# Altium schematic symbol library ICs_Control.SchLib: 37 symbols (part 3 of 6)
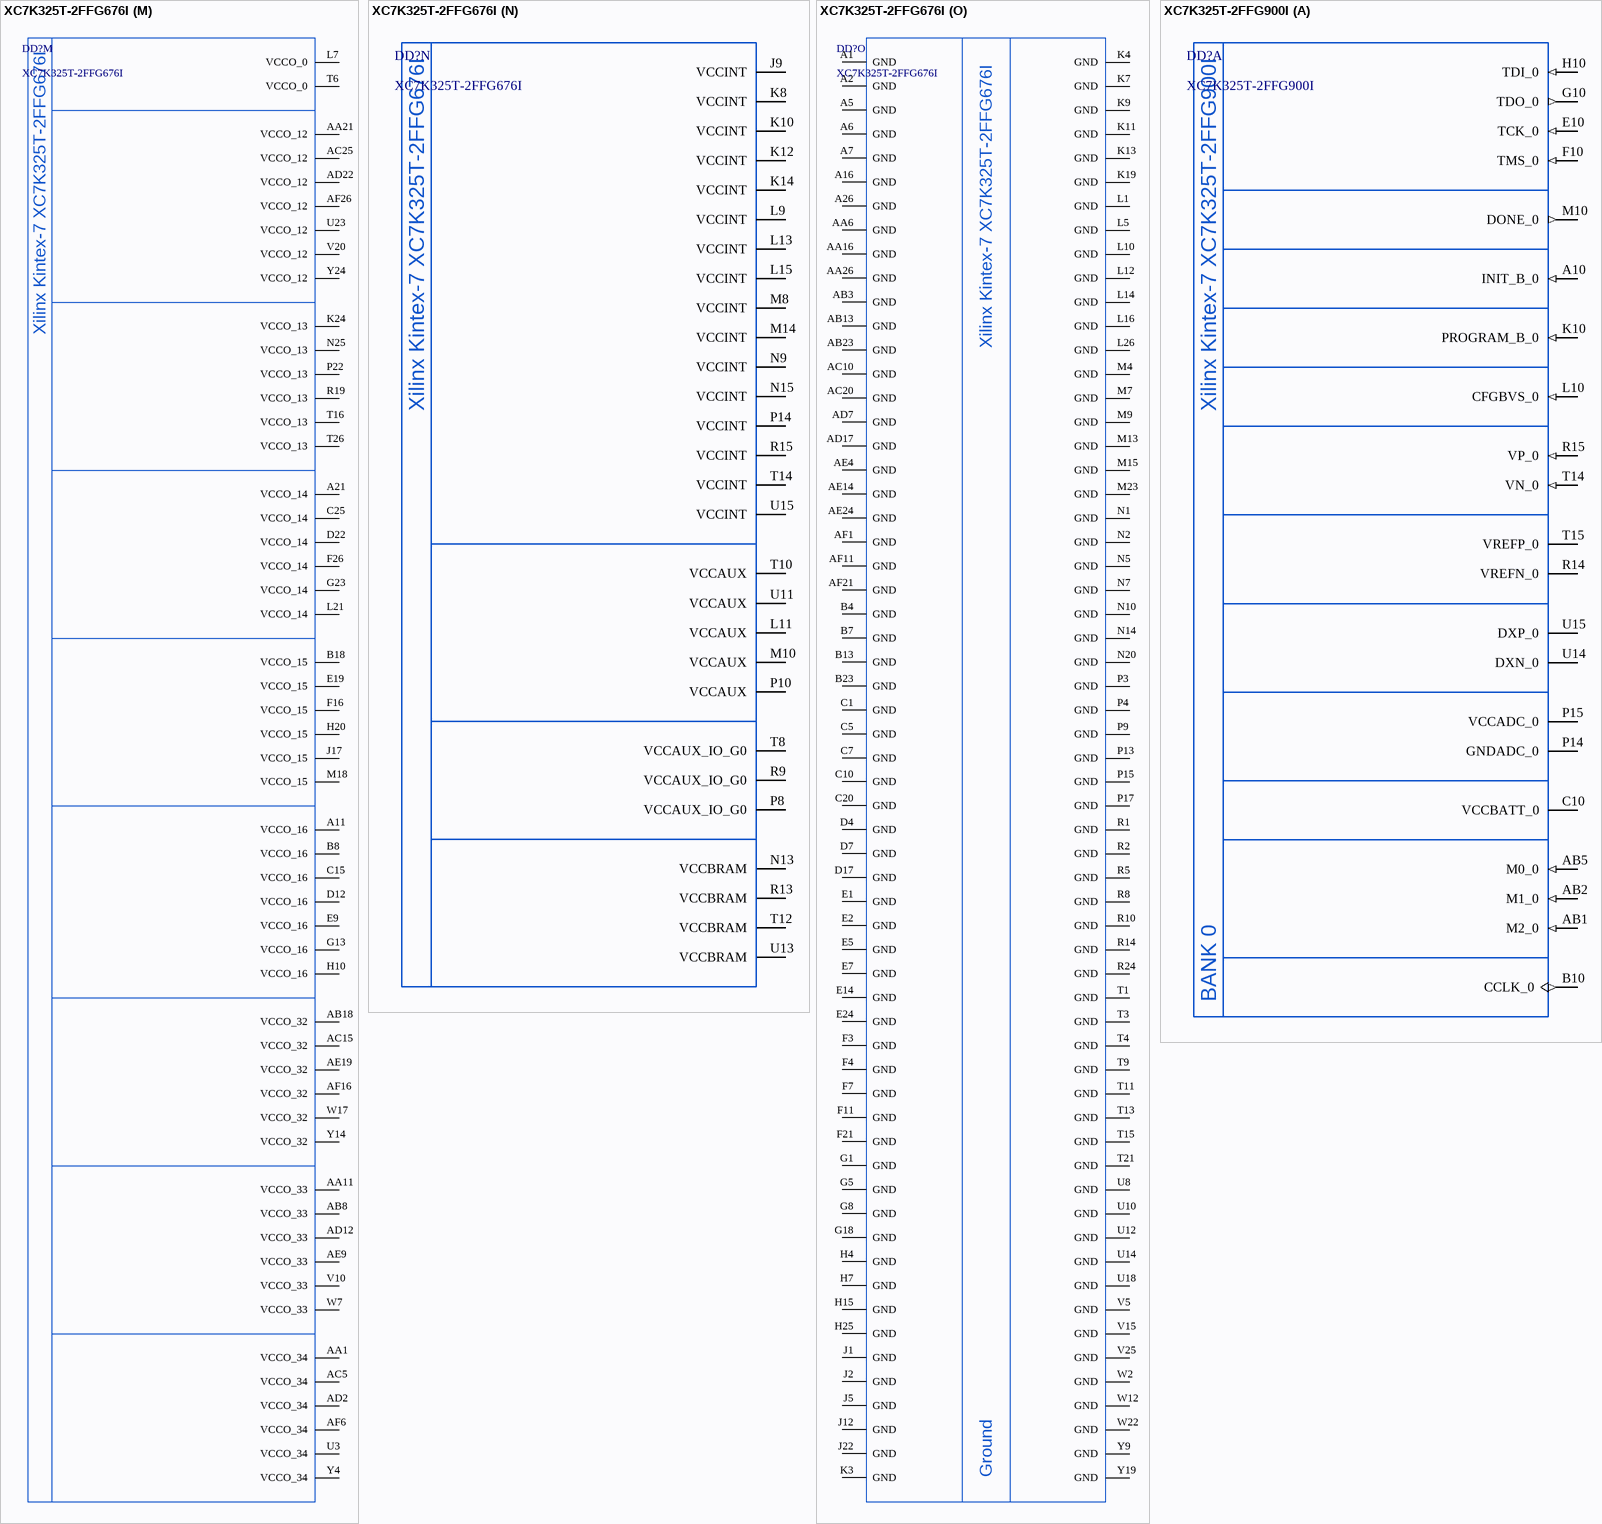
[diagram p79: symbols XC7K325T-2FFG676I to XC7K325T-2FFG900I]

## XC7K325T-2FFG676I
designator DD?
Kintex-7 FPGA, 400 User I/Os, 8 GTX, 676-Ball BGA, Speed Grade 2; Manufacturer: Xilinx; ItemType: IC; Speed Grade: -2; PartNumber: XC7K325T-2FFG676I; Package: FFG676; Marking: XC7K325T; ItemSubType: FPGA; Mounting: SMD
footprint FFG676_XC7K325T (BGA, 676-Leads, Body 27,00x27,00mmx2,67mm, Pitch 1,00mm)
part A pins: C8 CCLK_0 (out), E8 VCCBATT_0 (power), G7 INIT_B_0 (in), J7 DONE_0 (out), L8 TCK_0 (in), M11 GNDADC_0, M12 VCCADC_0 (power), N8 TMS_0 (in), N11 VREFN_0, N12 VP_0 (in), P5 M2_0 (in), P6 PROGRAM_B_0 (in), P7 CFGBVS_0 (in), P11 VN_0 (in), P12 VREFP_0, R6 TDI_0 (in), R7 TDO_0 (out), R11 DXN_0, R12 DXP_0, T2 M1_0 (in), T5 M0_0 (in)
part B pins: AA22 IO_L13N_T2_MRCC_12 (io), AA23 IO_L11P_T1_SRCC_12 (io), AA24 IO_L12N_T1_MRCC_12 (io), AA25 IO_L7P_T1_12 (io), AB21 IO_L18P_T2_12 (io), AB22 IO_L17P_T2_12 (io), AB24 IO_L11N_T1_SRCC_12 (io), AB25 IO_L7N_T1_12 (io), AB26 IO_L9P_T1_DQS_12 (io), AC21 IO_L18N_T2_12 (io), AC22 IO_L17N_T2_12 (io), AC23 IO_L14P_T2_SRCC_12 (io), AC24 IO_L14N_T2_SRCC_12 (io), AC26 IO_L9N_T1_DQS_12 (io), AD21 IO_L19P_T3_12 (io), AD23 IO_L16P_T2_12 (io), AD24 IO_L16N_T2_12 (io), AD25 IO_L23P_T3_12 (io), AD26 IO_L21P_T3_DQS_12 (io), AE21 IO_L19N_T3_VREF_12 (io), AE22 IO_L24P_T3_12 (io), AE23 IO_L22P_T3_12 (io), AE25 IO_L23N_T3_12 (io), AE26 IO_L21N_T3_DQS_12 (io), AF22 IO_L24N_T3_12 (io), AF23 IO_L22N_T3_12 (io), AF24 IO_L20P_T3_12 (io), AF25 IO_L20N_T3_12 (io), U21 IO_0_12 (io), U22 IO_L1P_T0_12 (io), U24 IO_L2P_T0_12 (io), U25 IO_L2N_T0_12 (io), U26 IO_L4P_T0_12 (io), V21 IO_L6P_T0_12 (io), V22 IO_L1N_T0_12 (io), V23 IO_L3P_T0_DQS_12 (io), V24 IO_L3N_T0_DQS_12 (io), V26 IO_L4N_T0_12 (io), W20 IO_L15P_T2_DQS_12 (io), W21 IO_L6N_T0_VREF_12 (io), W23 IO_L8P_T1_12 (io), W24 IO_L8N_T1_12 (io), W25 IO_L5P_T0_12 (io), W26 IO_L5N_T0_12 (io), Y20 IO_25_12 (io), Y21 IO_L15N_T2_DQS_12 (io), Y22 IO_L13P_T2_MRCC_12 (io), Y23 IO_L12P_T1_MRCC_12 (io), Y25 IO_L10P_T1_12 (io), Y26 IO_L10N_T1_12 (io)
part C pins: K25 IO_L1P_T0_13 (io), K26 IO_L1N_T0_13 (io), L24 IO_L8N_T1_13 (io), L25 IO_L3N_T0_DQS_13 (io), M19 IO_L22N_T3_13 (io), M20 IO_L7N_T1_13 (io), M21 IO_L10P_T1_13 (io), M22 IO_L10N_T1_13 (io), M24 IO_L8P_T1_13 (io), M25 IO_L3P_T0_DQS_13 (io), M26 IO_L5N_T0_13 (io), N16 IO_0_13 (io), N17 IO_L20N_T3_13 (io), N18 IO_L22P_T3_13 (io), N19 IO_L7P_T1_13 (io), N21 IO_L12P_T1_MRCC_13 (io), N22 IO_L12N_T1_MRCC_13 (io), N23 IO_L11N_T1_SRCC_13 (io), N24 IO_L4N_T0_13 (io), N26 IO_L5P_T0_13 (io), P16 IO_L20P_T3_13 (io), P18 IO_L24N_T3_13 (io), P19 IO_L9P_T1_DQS_13 (io), P20 IO_L9N_T1_DQS_13 (io), P21 IO_L13N_T2_MRCC_13 (io), P23 IO_L11P_T1_SRCC_13 (io), P24 IO_L4P_T0_13 (io), P25 IO_L6N_T0_VREF_13 (io), P26 IO_L2N_T0_13 (io), R16 IO_L21P_T3_DQS_13 (io), R17 IO_L21N_T3_DQS_13 (io), R18 IO_L24P_T3_13 (io), R20 IO_L16N_T2_13 (io), R21 IO_L13P_T2_MRCC_13 (io), R22 IO_L14P_T2_SRCC_13 (io), R23 IO_L14N_T2_SRCC_13 (io), R25 IO_L6P_T0_13 (io), R26 IO_L2P_T0_13 (io), T17 IO_L23N_T3_13 (io), T18 IO_L19P_T3_13 (io), T19 IO_L19N_T3_VREF_13 (io), T20 IO_L16P_T2_13 (io), T22 IO_L17P_T2_13 (io), T23 IO_L17N_T2_13 (io), T24 IO_L15P_T2_DQS_13 (io), T25 IO_L15N_T2_DQS_13 (io), U16 IO_25_13 (io), U17 IO_L23P_T3_13 (io), U19 IO_L18P_T2_13 (io), U20 IO_L18N_T2_13 (io)
part D pins: A20 IO_L8N_T1_D12_14 (io), A22 IO_L2N_T0_D03_14 (io), A23 IO_L4P_T0_D04_14 (io), A24 IO_L4N_T0_D05_14 (io), A25 IO_L1N_T0_D01_DIN_14 (io), B20 IO_L8P_T1_D11_14 (io), B21 IO_L10N_T1_D15_14 (io), B22 IO_L2P_T0_D02_14 (io), B24 IO_L1P_T0_D00_MOSI_14 (io), B25 IO_L3P_T0_DQS_PUDC_B_14 (io), B26 IO_L3N_T0_DQS_EMCCLK_14 (io), C21 IO_L10P_T1_D14_14 (io), C22 IO_L7N_T1_D10_14 (io), C23 IO_L6P_T0_FCS_B_14 (io), C24 IO_L6N_T0_D08_VREF_14 (io), C26 IO_L5N_T0_D07_14 (io), D21 IO_L7P_T1_D09_14 (io), D23 IO_L11P_T1_SRCC_14 (io), D24 IO_L11N_T1_SRCC_14 (io), D25 IO_L15N_T2_DQS_DOUT_CSO_B_14 (io), D26 IO_L5P_T0_D06_14 (io), E21 IO_L9P_T1_DQS_14 (io), E22 IO_L9N_T1_DQS_D13_14 (io), E23 IO_L12N_T1_MRCC_14 (io), E25 IO_L15P_T2_DQS_RDWR_B_14 (io), E26 IO_L17N_T2_A13_D29_14 (io), F22 IO_L12P_T1_MRCC_14 (io), F23 IO_L13N_T2_MRCC_14 (io), F24 IO_L14N_T2_SRCC_14 (io), F25 IO_L17P_T2_A14_D30_14 (io), G21 IO_L19N_T3_A09_D25_VREF_14 (io), G22 IO_L13P_T2_MRCC_14 (io), G24 IO_L14P_T2_SRCC_14 (io), G25 IO_L16P_T2_CSI_B_14 (io), G26 IO_L16N_T2_A15_D31_14 (io), H21 IO_L19P_T3_A10_D26_14 (io), H22 IO_L21N_T3_DQS_A06_D22_14 (io), H23 IO_L20P_T3_A08_D24_14 (io), H24 IO_L20N_T3_A07_D23_14 (io), H26 IO_L18N_T2_A11_D27_14 (io), J21 IO_L21P_T3_DQS_14 (io), J23 IO_L24N_T3_A00_D16_14 (io), J24 IO_L22P_T3_A05_D21_14 (io), J25 IO_L22N_T3_A04_D20_14 (io), J26 IO_L18P_T2_A12_D28_14 (io), K21 IO_0_14 (io), K22 IO_L23N_T3_A02_D18_14 (io), K23 IO_L24P_T3_A01_D17_14 (io), L22 IO_L23P_T3_A03_D19_14 (io), L23 IO_25_14 (io)
part E pins: A17 IO_L3N_T0_DQS_AD1N_15 (io), A18 IO_L2P_T0_AD8P_15 (io), A19 IO_L2N_T0_AD8N_15 (io), B16 IO_L1N_T0_AD0N_15 (io), B17 IO_L3P_T0_DQS_AD1P_15 (io), B19 IO_L4N_T0_AD9N_15 (io), C16 IO_L1P_T0_AD0P_15 (io), C17 IO_L5P_T0_AD2P_15 (io), C18 IO_L5N_T0_AD2N_15 (io), C19 IO_L4P_T0_AD9P_15 (io), D15 IO_L6P_T0_15 (io), D16 IO_L6N_T0_VREF_15 (io), D18 IO_L13N_T2_MRCC_15 (io), D19 IO_L15P_T2_DQS_15 (io), D20 IO_L15N_T2_DQS_ADV_B_15 (io), E15 IO_L10P_T1_AD4P_15 (io), E16 IO_L10N_T1_AD4N_15 (io), E17 IO_L12N_T1_MRCC_AD5N_15 (io), E18 IO_L13P_T2_MRCC_15 (io), E20 IO_L17N_T2_A25_15 (io), F15 IO_L8N_T1_AD3N_15 (io), F17 IO_L12P_T1_MRCC_AD5P_15 (io), F18 IO_L11N_T1_SRCC_AD12N_15 (io), F19 IO_L17P_T2_A26_15 (io), F20 IO_L16N_T2_A27_15 (io), G15 IO_L8P_T1_AD3P_15 (io), G16 IO_L7N_T1_AD10N_15 (io), G17 IO_L11P_T1_SRCC_AD12P_15 (io), G19 IO_L16P_T2_A28_15 (io), G20 IO_L18N_T2_A23_15 (io), H16 IO_L7P_T1_AD10P_15 (io), H17 IO_L14P_T2_SRCC_15 (io), H18 IO_L14N_T2_SRCC_15 (io), H19 IO_L18P_T2_A24_15 (io), J15 IO_L9P_T1_DQS_AD11P_15 (io), J16 IO_L9N_T1_DQS_AD11N_15 (io), J18 IO_L20P_T3_A20_15 (io), J19 IO_L20N_T3_A19_15 (io), J20 IO_L19N_T3_A21_VREF_15 (io), K15 IO_0_15 (io), K16 IO_L22P_T3_A17_15 (io), K17 IO_L22N_T3_A16_15 (io), K18 IO_L24N_T3_RS0_15 (io), K20 IO_L19P_T3_A22_15 (io), L17 IO_L24P_T3_RS1_15 (io), L18 IO_L23N_T3_FWE_B_15 (io), L19 IO_L21P_T3_DQS_15 (io), L20 IO_L21N_T3_DQS_A18_15 (io), M16 IO_25_15 (io), M17 IO_L23P_T3_FOE_B_15 (io)
part F pins: A8 IO_L9N_T1_DQS_16 (io), A9 IO_L9P_T1_DQS_16 (io), A10 IO_L22N_T3_16 (io), A12 IO_L24N_T3_16 (io), A13 IO_L24P_T3_16 (io), A14 IO_L21N_T3_DQS_16 (io), A15 IO_L23N_T3_16 (io), B9 IO_L10N_T1_16 (io), B10 IO_L22P_T3_16 (io), B11 IO_L20N_T3_16 (io), B12 IO_L20P_T3_16 (io), B14 IO_L21P_T3_DQS_16 (io), B15 IO_L23P_T3_16 (io), C9 IO_L10P_T1_16 (io), C11 IO_L13N_T2_MRCC_16 (io), C12 IO_L13P_T2_MRCC_16 (io), C13 IO_L19N_T3_VREF_16 (io), C14 IO_L19P_T3_16 (io), D8 IO_L8N_T1_16 (io), D9 IO_L8P_T1_16 (io), D10 IO_L12N_T1_MRCC_16 (io), D11 IO_L14N_T2_SRCC_16 (io), D13 IO_L17N_T2_16 (io), D14 IO_L17P_T2_16 (io), E10 IO_L12P_T1_MRCC_16 (io), E11 IO_L14P_T2_SRCC_16 (io), E12 IO_L18N_T2_16 (io), E13 IO_L18P_T2_16 (io), F8 IO_L7N_T1_16 (io), F9 IO_L7P_T1_16 (io), F10 IO_L11N_T1_SRCC_16 (io), F12 IO_L16N_T2_16 (io), F13 IO_L15N_T2_DQS_16 (io), F14 IO_L15P_T2_DQS_16 (io), G9 IO_L2N_T0_16 (io), G10 IO_L2P_T0_16 (io), G11 IO_L11P_T1_SRCC_16 (io), G12 IO_L16P_T2_16 (io), G14 IO_L5N_T0_16 (io), H8 IO_L1N_T0_16 (io), H9 IO_L1P_T0_16 (io), H11 IO_L6N_T0_VREF_16 (io), H12 IO_L6P_T0_16 (io), H13 IO_L3N_T0_DQS_16 (io), H14 IO_L5P_T0_16 (io), J8 IO_0_16 (io), J10 IO_L4N_T0_16 (io), J11 IO_L4P_T0_16 (io), J13 IO_L3P_T0_DQS_16 (io), J14 IO_25_16 (io)
part G pins: AA14 IO_L7P_T1_32 (io), AA15 IO_L7N_T1_32 (io), AA17 IO_L11P_T1_SRCC_32 (io), AA18 IO_L11N_T1_SRCC_32 (io), AA19 IO_L16P_T2_32 (io), AA20 IO_L16N_T2_32 (io), AB14 IO_L10P_T1_32 (io), AB15 IO_L10N_T1_32 (io), AB16 IO_L12P_T1_MRCC_32 (io), AB17 IO_L14P_T2_SRCC_32 (io), AB19 IO_L18P_T2_32 (io), AB20 IO_L18N_T2_32 (io), AC14 IO_L8P_T1_32 (io), AC16 IO_L12N_T1_MRCC_32 (io), AC17 IO_L14N_T2_SRCC_32 (io), AC18 IO_L13P_T2_MRCC_32 (io), AC19 IO_L17P_T2_32 (io), AD14 IO_L8N_T1_32 (io), AD15 IO_L4P_T0_32 (io), AD16 IO_L6P_T0_32 (io), AD18 IO_L13N_T2_MRCC_32 (io), AD19 IO_L17N_T2_32 (io), AD20 IO_L15P_T2_DQS_32 (io), AE15 IO_L4N_T0_32 (io), AE16 IO_L6N_T0_VREF_32 (io), AE17 IO_L1P_T0_32 (io), AE18 IO_L3P_T0_DQS_32 (io), AE20 IO_L15N_T2_DQS_32 (io), AF14 IO_L2P_T0_32 (io), AF15 IO_L2N_T0_32 (io), AF17 IO_L1N_T0_32 (io), AF18 IO_L3N_T0_DQS_32 (io), AF19 IO_L5P_T0_32 (io), AF20 IO_L5N_T0_32 (io), V13 IO_0_VRN_32 (io), V14 IO_L24P_T3_32 (io), V16 IO_L20P_T3_32 (io), V17 IO_L20N_T3_32 (io), V18 IO_L23P_T3_32 (io), V19 IO_L23N_T3_32 (io), W13 IO_25_VRP_32 (io), W14 IO_L24N_T3_32 (io), W15 IO_L22P_T3_32 (io), W16 IO_L22N_T3_32 (io), W18 IO_L21P_T3_DQS_32 (io), W19 IO_L21N_T3_DQS_32 (io), Y15 IO_L9P_T1_DQS_32 (io), Y16 IO_L9N_T1_DQS_32 (io), Y17 IO_L19P_T3_32 (io), Y18 IO_L19N_T3_VREF_32 (io)
part H pins: AA7 IO_L8N_T1_33 (io), AA8 IO_L8P_T1_33 (io), AA9 IO_L11P_T1_SRCC_33 (io), AA10 IO_L14P_T2_SRCC_33 (io), AA12 IO_L16N_T2_33 (io), AA13 IO_L16P_T2_33 (io), AB7 IO_L10P_T1_33 (io), AB9 IO_L11N_T1_SRCC_33 (io), AB10 IO_L14N_T2_SRCC_33 (io), AB11 IO_L13P_T2_MRCC_33 (io), AB12 IO_L15P_T2_DQS_33 (io), AC7 IO_L10N_T1_33 (io), AC8 IO_L9P_T1_DQS_33 (io), AC9 IO_L12P_T1_MRCC_33 (io), AC11 IO_L13N_T2_MRCC_33 (io), AC12 IO_L15N_T2_DQS_33 (io), AC13 IO_L17P_T2_33 (io), AD8 IO_L9N_T1_DQS_33 (io), AD9 IO_L12N_T1_MRCC_33 (io), AD10 IO_L20P_T3_33 (io), AD11 IO_L19P_T3_33 (io), AD13 IO_L17N_T2_33 (io), AE7 IO_L7P_T1_33 (io), AE8 IO_L22P_T3_33 (io), AE10 IO_L20N_T3_33 (io), AE11 IO_L19N_T3_VREF_33 (io), AE12 IO_L21P_T3_DQS_33 (io), AE13 IO_L23P_T3_33 (io), AF7 IO_L7N_T1_33 (io), AF8 IO_L22N_T3_33 (io), AF9 IO_L24N_T3_33 (io), AF10 IO_L24P_T3_33 (io), AF12 IO_L21N_T3_DQS_33 (io), AF13 IO_L23N_T3_33 (io), U9 IO_0_VRN_33 (io), V7 IO_L2N_T0_33 (io), V8 IO_L2P_T0_33 (io), V9 IO_L6P_T0_33 (io), V11 IO_L1P_T0_33 (io), V12 IO_25_VRP_33 (io), W8 IO_L6N_T0_VREF_33 (io), W9 IO_L3N_T0_DQS_33 (io), W10 IO_L3P_T0_DQS_33 (io), W11 IO_L1N_T0_33 (io), Y7 IO_L4N_T0_33 (io), Y8 IO_L4P_T0_33 (io), Y10 IO_L5N_T0_33 (io), Y11 IO_L5P_T0_33 (io), Y12 IO_L18N_T2_33 (io), Y13 IO_L18P_T2_33 (io)
part I pins: AA2 IO_L12N_T1_MRCC_34 (io), AA3 IO_L12P_T1_MRCC_34 (io), AA4 IO_L13P_T2_MRCC_34 (io), AA5 IO_L15P_T2_DQS_34 (io), AB1 IO_L9P_T1_DQS_34 (io), AB2 IO_L11P_T1_SRCC_34 (io), AB4 IO_L13N_T2_MRCC_34 (io), AB5 IO_L15N_T2_DQS_34 (io), AB6 IO_L16P_T2_34 (io), AC1 IO_L9N_T1_DQS_34 (io), AC2 IO_L11N_T1_SRCC_34 (io), AC3 IO_L14N_T2_SRCC_34 (io), AC4 IO_L14P_T2_SRCC_34 (io), AC6 IO_L16N_T2_34 (io), AD1 IO_L20P_T3_34 (io), AD3 IO_L19N_T3_VREF_34 (io), AD4 IO_L19P_T3_34 (io), AD5 IO_L18N_T2_34 (io), AD6 IO_L18P_T2_34 (io), AE1 IO_L20N_T3_34 (io), AE2 IO_L22N_T3_34 (io), AE3 IO_L22P_T3_34 (io), AE5 IO_L23N_T3_34 (io), AE6 IO_L23P_T3_34 (io), AF2 IO_L24N_T3_34 (io), AF3 IO_L24P_T3_34 (io), AF4 IO_L21N_T3_DQS_34 (io), AF5 IO_L21P_T3_DQS_34 (io), T7 IO_25_VRP_34 (io), U1 IO_L2N_T0_34 (io), U2 IO_L2P_T0_34 (io), U4 IO_0_VRN_34 (io), U5 IO_L1N_T0_34 (io), U6 IO_L1P_T0_34 (io), U7 IO_L5P_T0_34 (io), V1 IO_L8N_T1_34 (io), V2 IO_L8P_T1_34 (io), V3 IO_L4P_T0_34 (io), V4 IO_L6P_T0_34 (io), V6 IO_L5N_T0_34 (io), W1 IO_L10P_T1_34 (io), W3 IO_L4N_T0_34 (io), W4 IO_L6N_T0_VREF_34 (io), W5 IO_L3N_T0_DQS_34 (io), W6 IO_L3P_T0_DQS_34 (io), Y1 IO_L10N_T1_34 (io), Y2 IO_L7N_T1_34 (io), Y3 IO_L7P_T1_34 (io), Y5 IO_L17N_T2_34 (io), Y6 IO_L17P_T2_34 (io)
part J pins: H1 MGTXTXN3_115 (out), H2 MGTXTXP3_115 (out), H5 MGTREFCLK0N_115 (in), H6 MGTREFCLK0P_115 (in), J3 MGTXRXN3_115 (in), J4 MGTXRXP3_115 (in), K1 MGTXTXN2_115 (out), K2 MGTXTXP2_115 (out), K5 MGTREFCLK1N_115 (in), K6 MGTREFCLK1P_115 (in), L3 MGTXRXN2_115 (in), L4 MGTXRXP2_115 (in), M1 MGTXTXN1_115 (out), M2 MGTXTXP1_115 (out), M5 MGTAVTTRCAL_115, M6 MGTRREF_115, N3 MGTXRXN1_115 (in), N4 MGTXRXP1_115 (in), P1 MGTXTXN0_115 (out), P2 MGTXTXP0_115 (out), R3 MGTXRXN0_115 (in), R4 MGTXRXP0_115 (in)
part K pins: A3 MGTXTXN3_116 (out), A4 MGTXTXP3_116 (out), B1 MGTXTXN2_116 (out), B2 MGTXTXP2_116 (out), B5 MGTXRXN3_116 (in), B6 MGTXRXP3_116 (in), C3 MGTXRXN2_116 (in), C4 MGTXRXP2_116 (in), D1 MGTXTXN1_116 (out), D2 MGTXTXP1_116 (out), D5 MGTREFCLK0N_116 (in), D6 MGTREFCLK0P_116 (in), E3 MGTXRXN1_116 (in), E4 MGTXRXP1_116 (in), F1 MGTXTXN0_116 (out), F2 MGTXTXP0_116 (out), F5 MGTREFCLK1N_116 (in), F6 MGTREFCLK1P_116 (in), G3 MGTXRXN0_116 (in), G4 MGTXRXP0_116 (in)
part L pins: B3 MGTAVTT (power), C2 MGTAVTT (power), C6 MGTAVCC (power), D3 MGTAVTT (power), E6 MGTAVCC (power), G2 MGTAVTT (power), G6 MGTAVCC (power), H3 MGTAVTT (power), J6 MGTAVCC (power), L2 MGTAVTT (power), L6 MGTAVCC (power), M3 MGTAVTT (power), N6 MGTVCCAUX (power)
part M pins: A11 VCCO_16 (power), A21 VCCO_14 (power), AA1 VCCO_34 (power), AA11 VCCO_33 (power), AA21 VCCO_12 (power), AB8 VCCO_33 (power), AB18 VCCO_32 (power), AC5 VCCO_34 (power), AC15 VCCO_32 (power), AC25 VCCO_12 (power), AD2 VCCO_34 (power), AD12 VCCO_33 (power), AD22 VCCO_12 (power), AE9 VCCO_33 (power), AE19 VCCO_32 (power), AF6 VCCO_34 (power), AF16 VCCO_32 (power), AF26 VCCO_12 (power), B8 VCCO_16 (power), B18 VCCO_15 (power), C15 VCCO_16 (power), C25 VCCO_14 (power), D12 VCCO_16 (power), D22 VCCO_14 (power), E9 VCCO_16 (power), E19 VCCO_15 (power), F16 VCCO_15 (power), F26 VCCO_14 (power), G13 VCCO_16 (power), G23 VCCO_14 (power), H10 VCCO_16 (power), H20 VCCO_15 (power), J17 VCCO_15 (power), K24 VCCO_13 (power), L7 VCCO_0 (power), L21 VCCO_14 (power), M18 VCCO_15 (power), N25 VCCO_13 (power), P22 VCCO_13 (power), R19 VCCO_13 (power), T6 VCCO_0 (power), T16 VCCO_13 (power), T26 VCCO_13 (power), U3 VCCO_34 (power), U23 VCCO_12 (power), V10 VCCO_33 (power), V20 VCCO_12 (power), W7 VCCO_33 (power), W17 VCCO_32 (power), Y4 VCCO_34 (power), Y14 VCCO_32 (power), Y24 VCCO_12 (power)
part N pins: J9 VCCINT (power), K8 VCCINT (power), K10 VCCINT (power), K12 VCCINT (power), K14 VCCINT (power), L9 VCCINT (power), L11 VCCAUX (power), L13 VCCINT (power), L15 VCCINT (power), M8 VCCINT (power), M10 VCCAUX (power), M14 VCCINT (power), N9 VCCINT (power), N13 VCCBRAM (power), N15 VCCINT (power), P8 VCCAUX_IO_G0 (power), P10 VCCAUX (power), P14 VCCINT (power), R9 VCCAUX_IO_G0 (power), R13 VCCBRAM (power), R15 VCCINT (power), T8 VCCAUX_IO_G0 (power), T10 VCCAUX (power), T12 VCCBRAM (power), T14 VCCINT (power), U11 VCCAUX (power), U13 VCCBRAM (power), U15 VCCINT (power)
part O pins: A1 GND, A2 GND, A5 GND, A6 GND, A7 GND, A16 GND, A26 GND, AA6 GND, AA16 GND, AA26 GND, AB3 GND, AB13 GND, AB23 GND, AC10 GND, AC20 GND, AD7 GND, AD17 GND, AE4 GND, AE14 GND, AE24 GND, AF1 GND, AF11 GND, AF21 GND, B4 GND, B7 GND, B13 GND, B23 GND, C1 GND, C5 GND, C7 GND, C10 GND, C20 GND, D4 GND, D7 GND, D17 GND, E1 GND, E2 GND, E5 GND, E7 GND, E14 GND, E24 GND, F3 GND, F4 GND, F7 GND, F11 GND, F21 GND, G1 GND, G5 GND, G8 GND, G18 GND, H4 GND, H7 GND, H15 GND, H25 GND, J1 GND, J2 GND, J5 GND, J12 GND, J22 GND, K3 GND, K4 GND, K7 GND, K9 GND, K11 GND, K13 GND, K19 GND, L1 GND, L5 GND, L10 GND, L12 GND, L14 GND, L16 GND, L26 GND, M4 GND, M7 GND, M9 GND, M13 GND, M15 GND, M23 GND, N1 GND, N2 GND, N5 GND, N7 GND, N10 GND, N14 GND, N20 GND, P3 GND, P4 GND, P9 GND, P13 GND, P15 GND, P17 GND, R1 GND, R2 GND, R5 GND, R8 GND, R10 GND, R14 GND, R24 GND, T1 GND, T3 GND, T4 GND, T9 GND, T11 GND, T13 GND, T15 GND, T21 GND, U8 GND, U10 GND, U12 GND, U14 GND, U18 GND, V5 GND, V15 GND, V25 GND, W2 GND, W12 GND, W22 GND, Y9 GND, Y19 GND
part A text: Xilinx Kintex-7 XC7K325T-2FFG676I; BANK 0
part B text: Xilinx Kintex-7 XC7K325T-2FFG676I; BANK 12
part C text: Xilinx Kintex-7 XC7K325T-2FFG676I; BANK 13
part D text: Xilinx Kintex-7 XC7K325T-2FFG676I; BANK 14
part E text: Xilinx Kintex-7 XC7K325T-2FFG676I; BANK 15
part F text: Xilinx Kintex-7 XC7K325T-2FFG676I; BANK 16
part G text: Xilinx Kintex-7 XC7K325T-2FFG676I; BANK 32
part H text: Xilinx Kintex-7 XC7K325T-2FFG676I; BANK 33
part I text: Xilinx Kintex-7 XC7K325T-2FFG676I; BANK 34
part J text: Xilinx Kintex-7 XC7K325T-2FFG676I; BANK 115
part K text: Xilinx Kintex-7 XC7K325T-2FFG676I; BANK 116
part L text: Xilinx Kintex-7 XC7K325T-2FFG676I
part M text: Xilinx Kintex-7 XC7K325T-2FFG676I
part N text: Xilinx Kintex-7 XC7K325T-2FFG676I
part O text: Xilinx Kintex-7 XC7K325T-2FFG676I; Ground

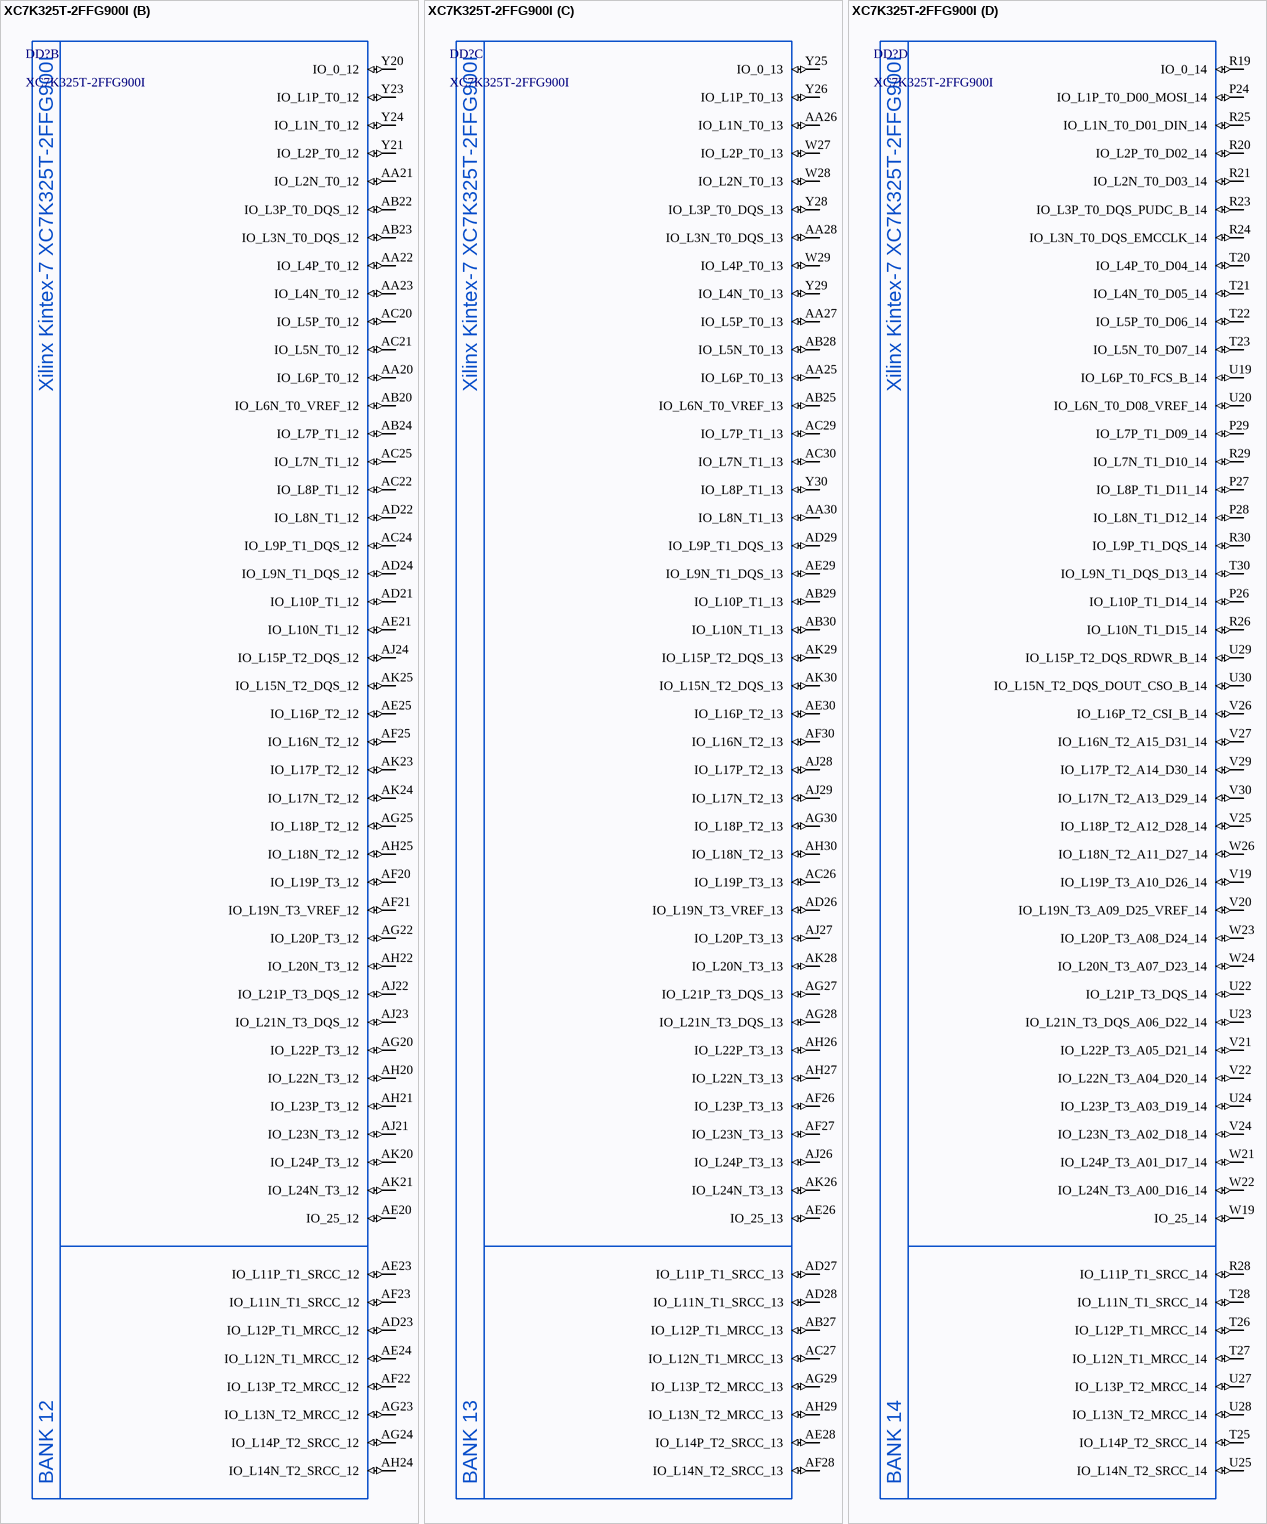
[diagram p29: symbol XC7K325T-2FFG900I]

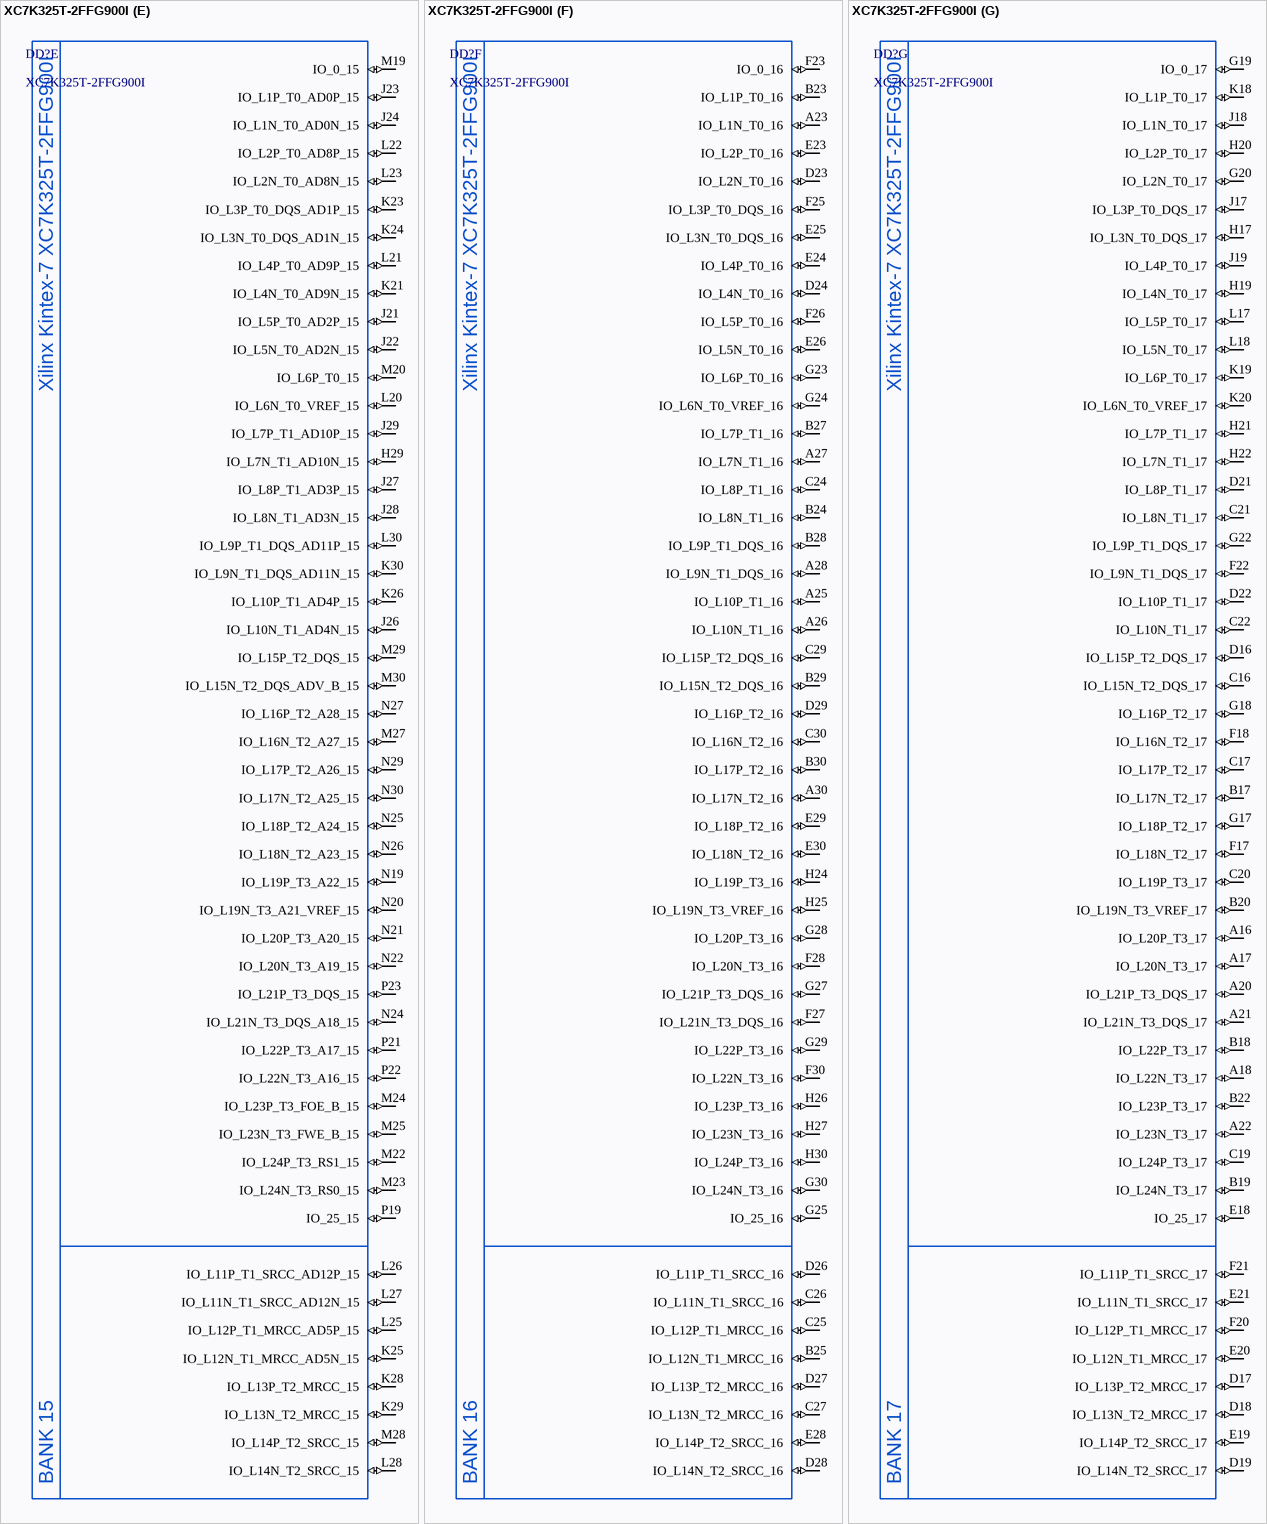
[diagram p30: symbol XC7K325T-2FFG900I]

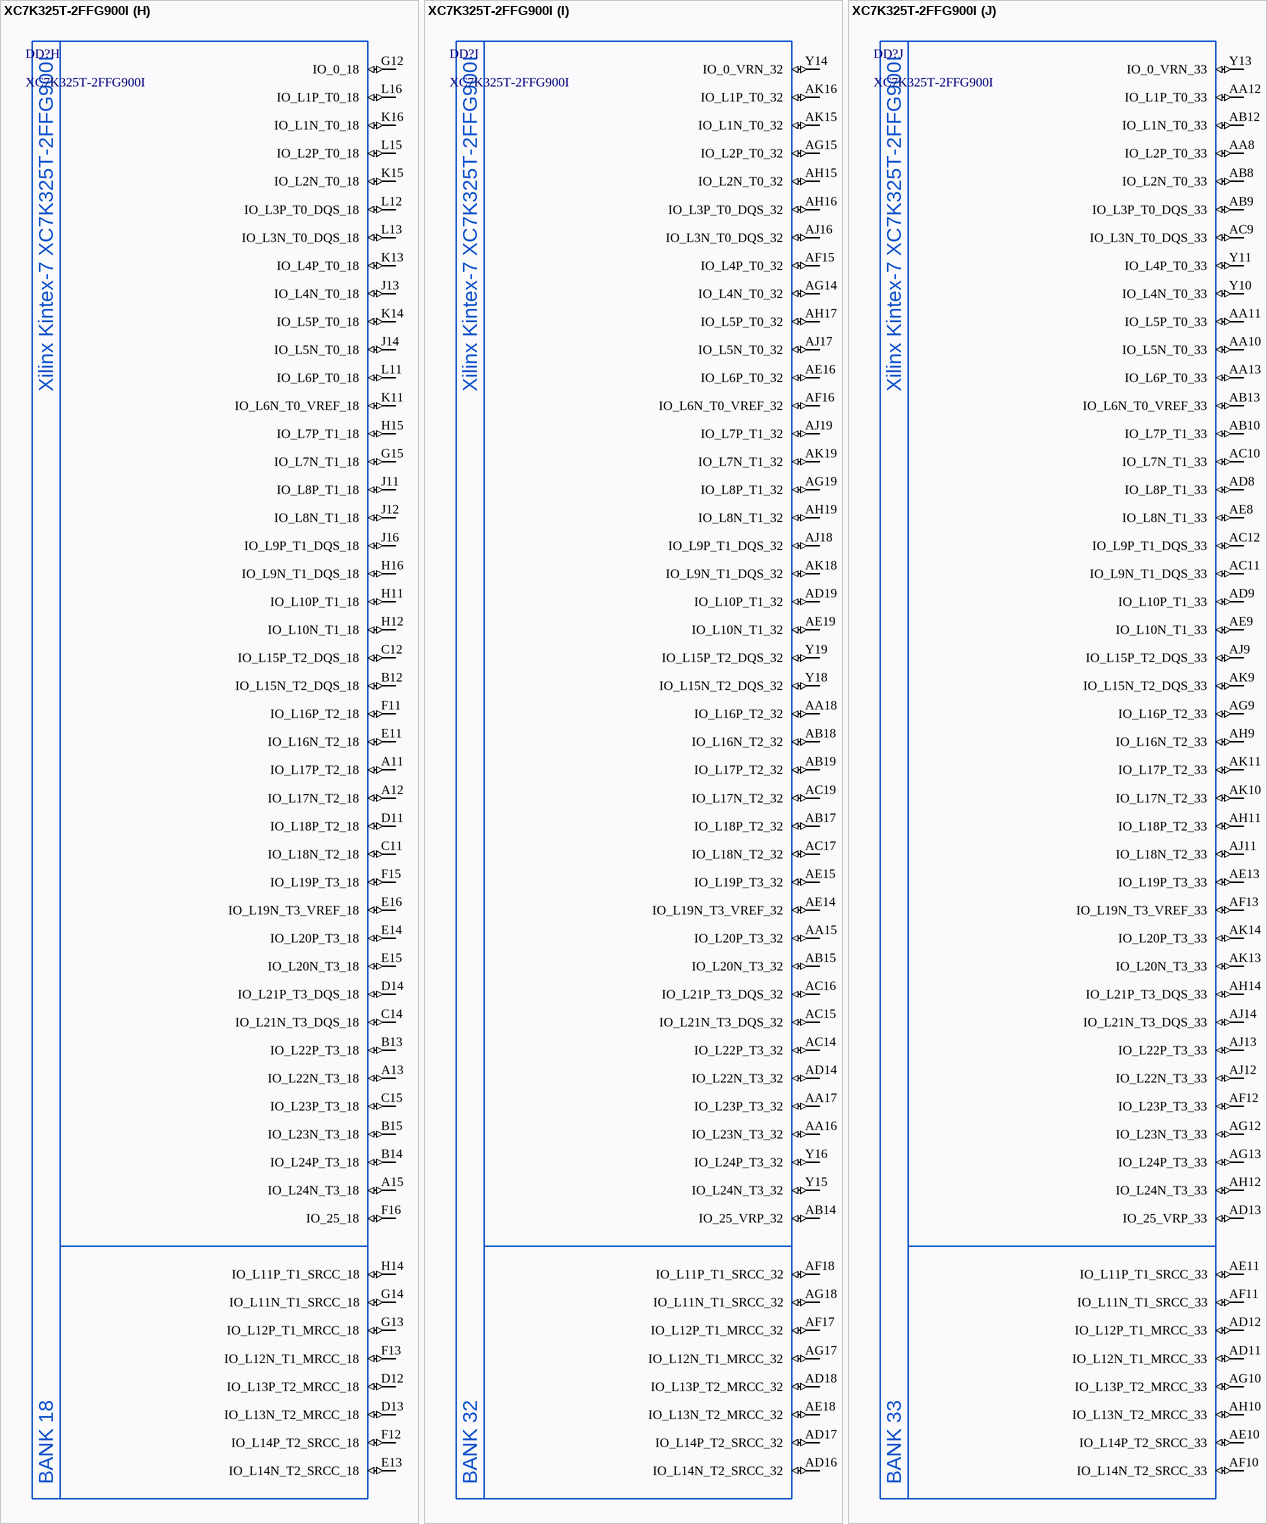
[diagram p31: symbol XC7K325T-2FFG900I]

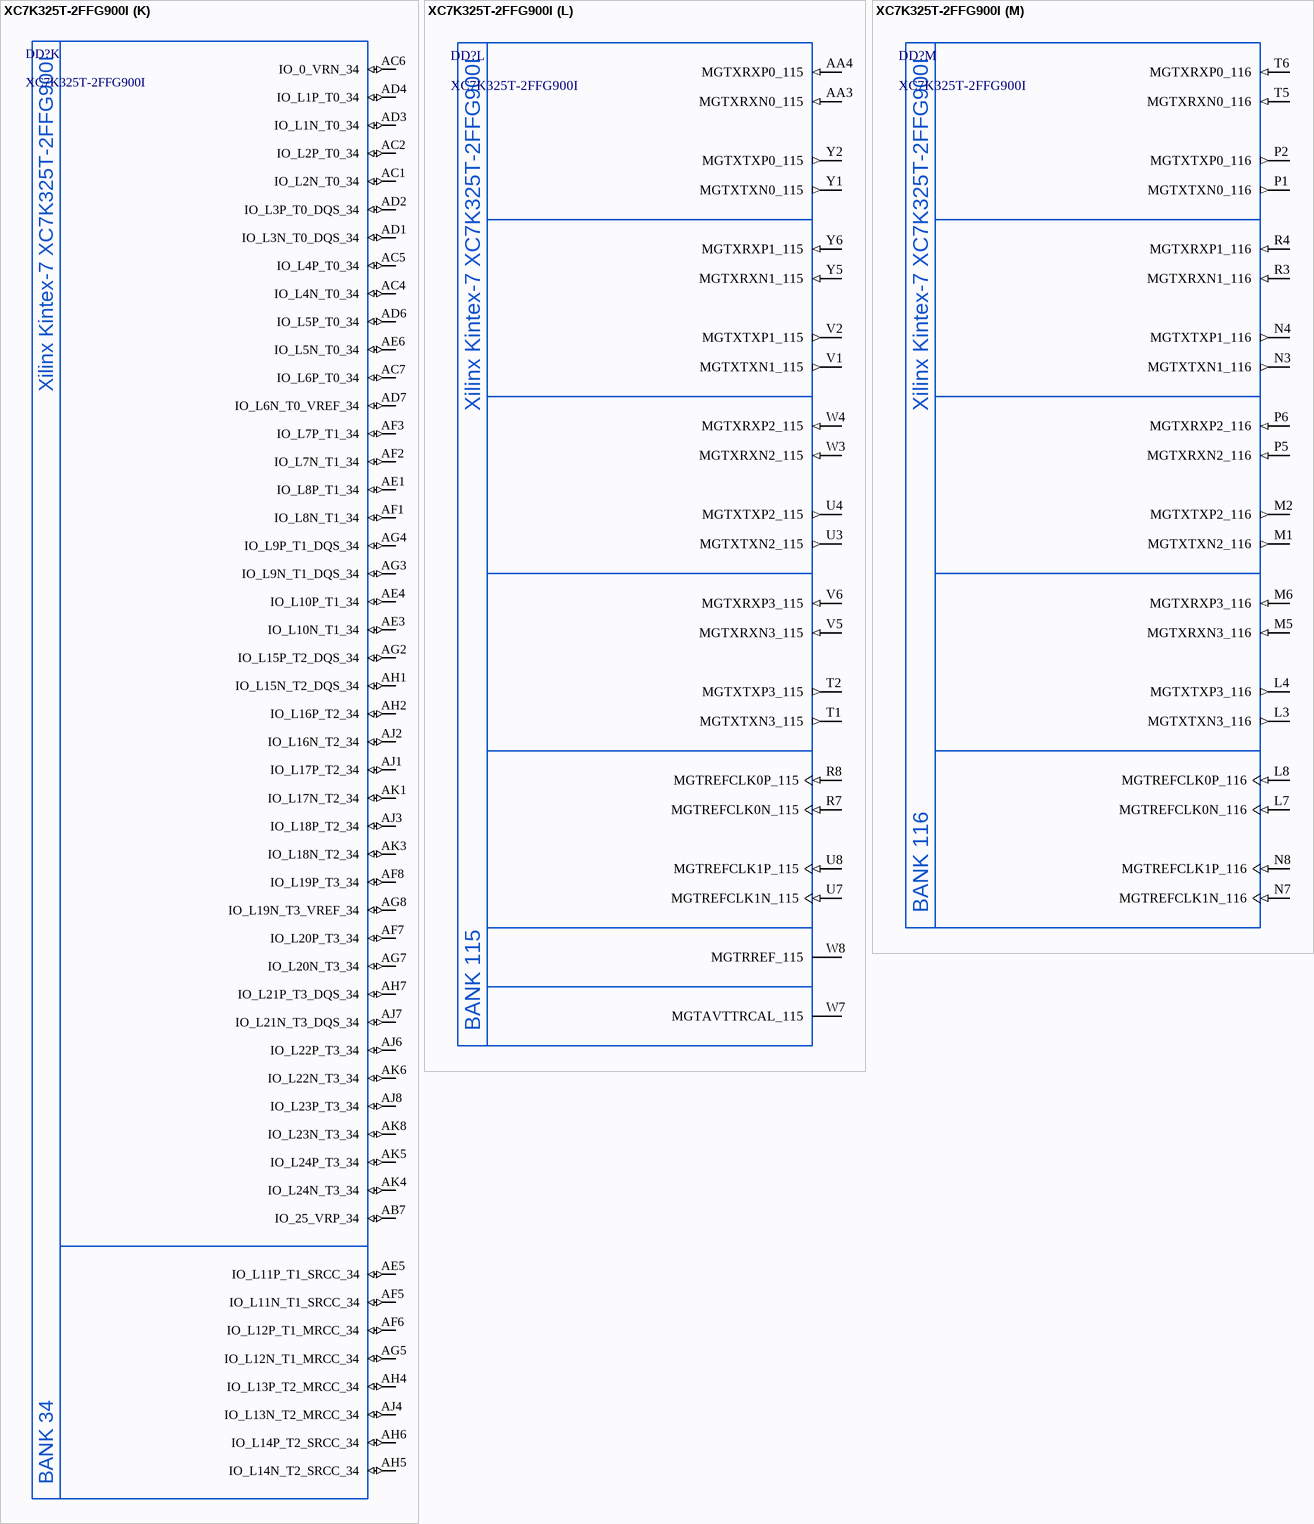
[diagram p32: symbol XC7K325T-2FFG900I]

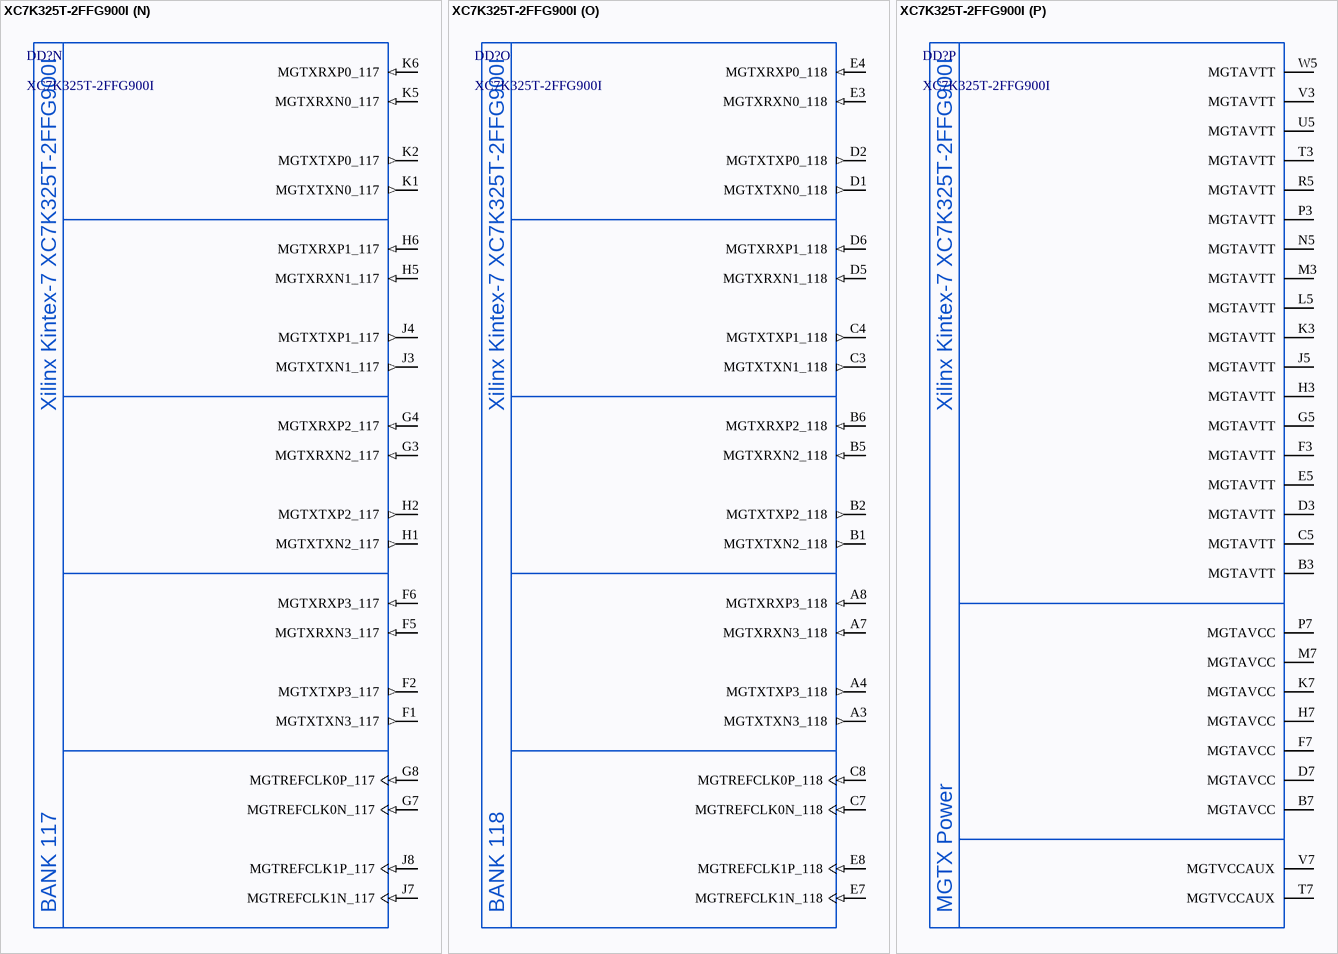
[diagram p33: symbol XC7K325T-2FFG900I]

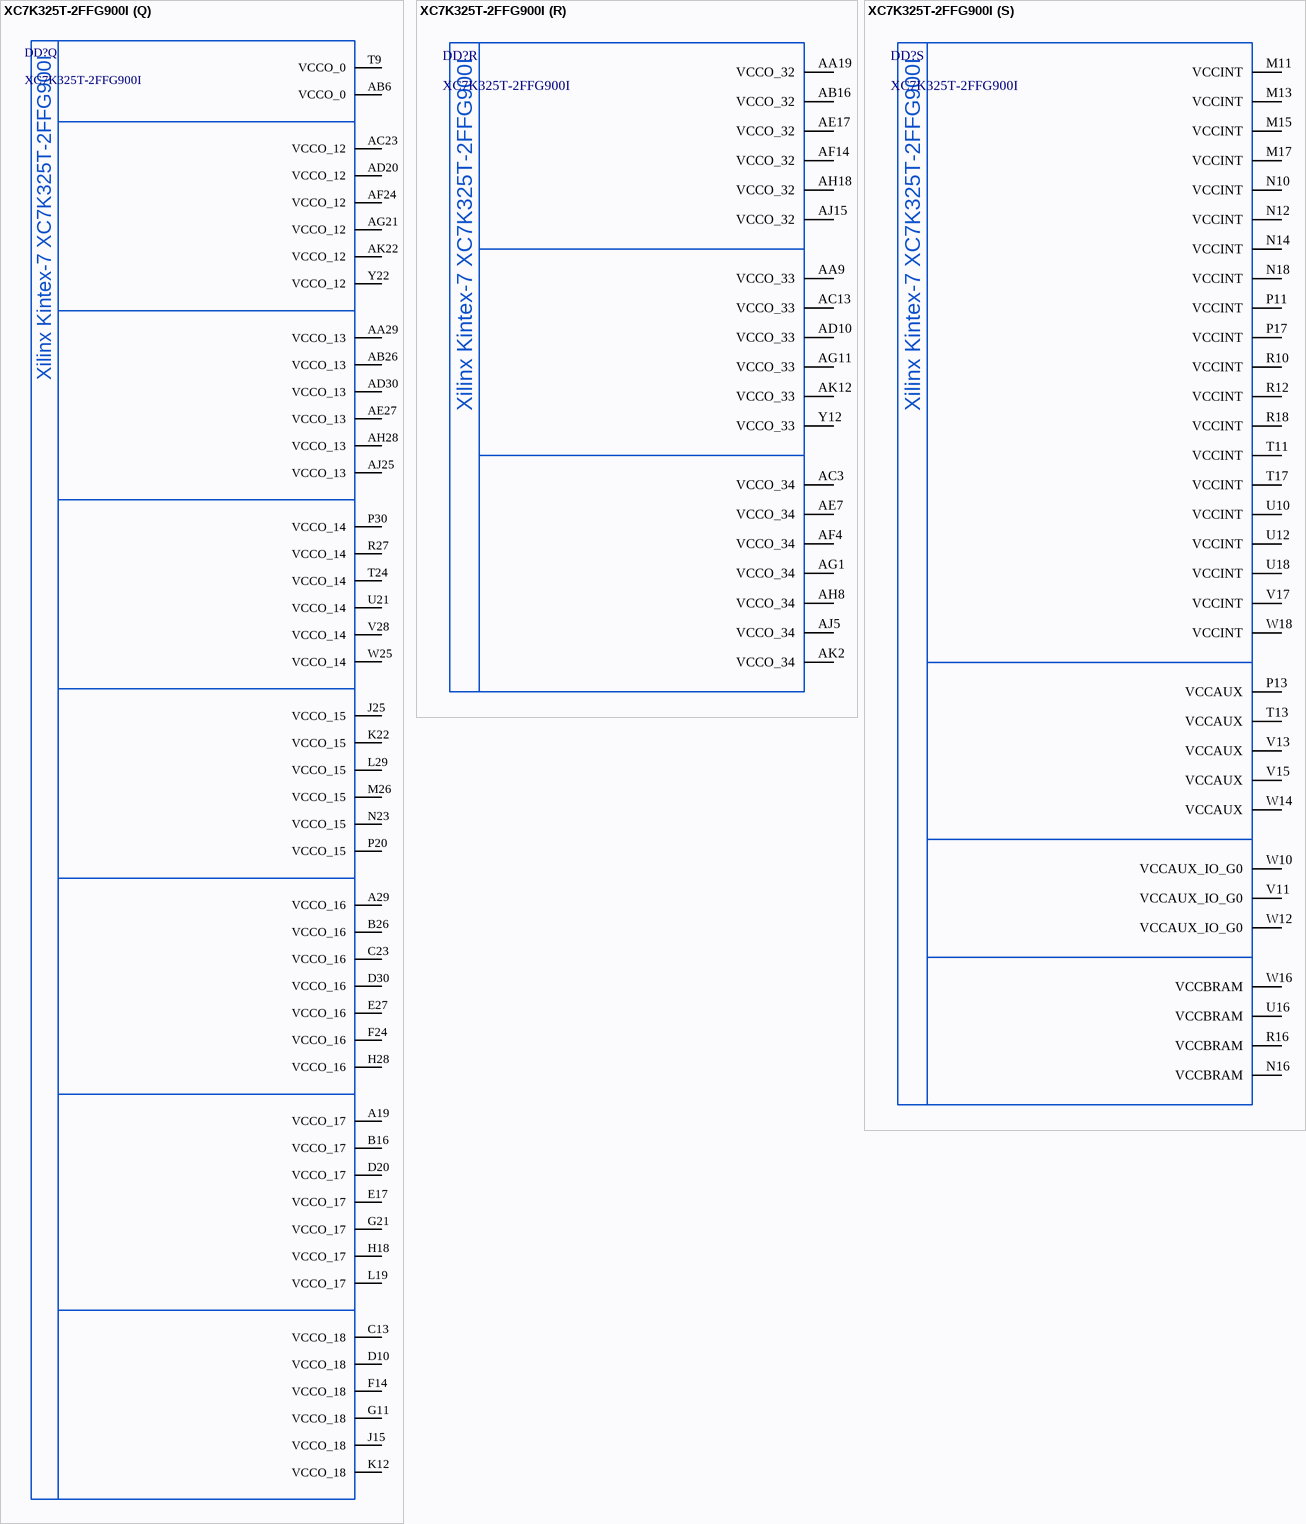
[diagram p34: symbol XC7K325T-2FFG900I]

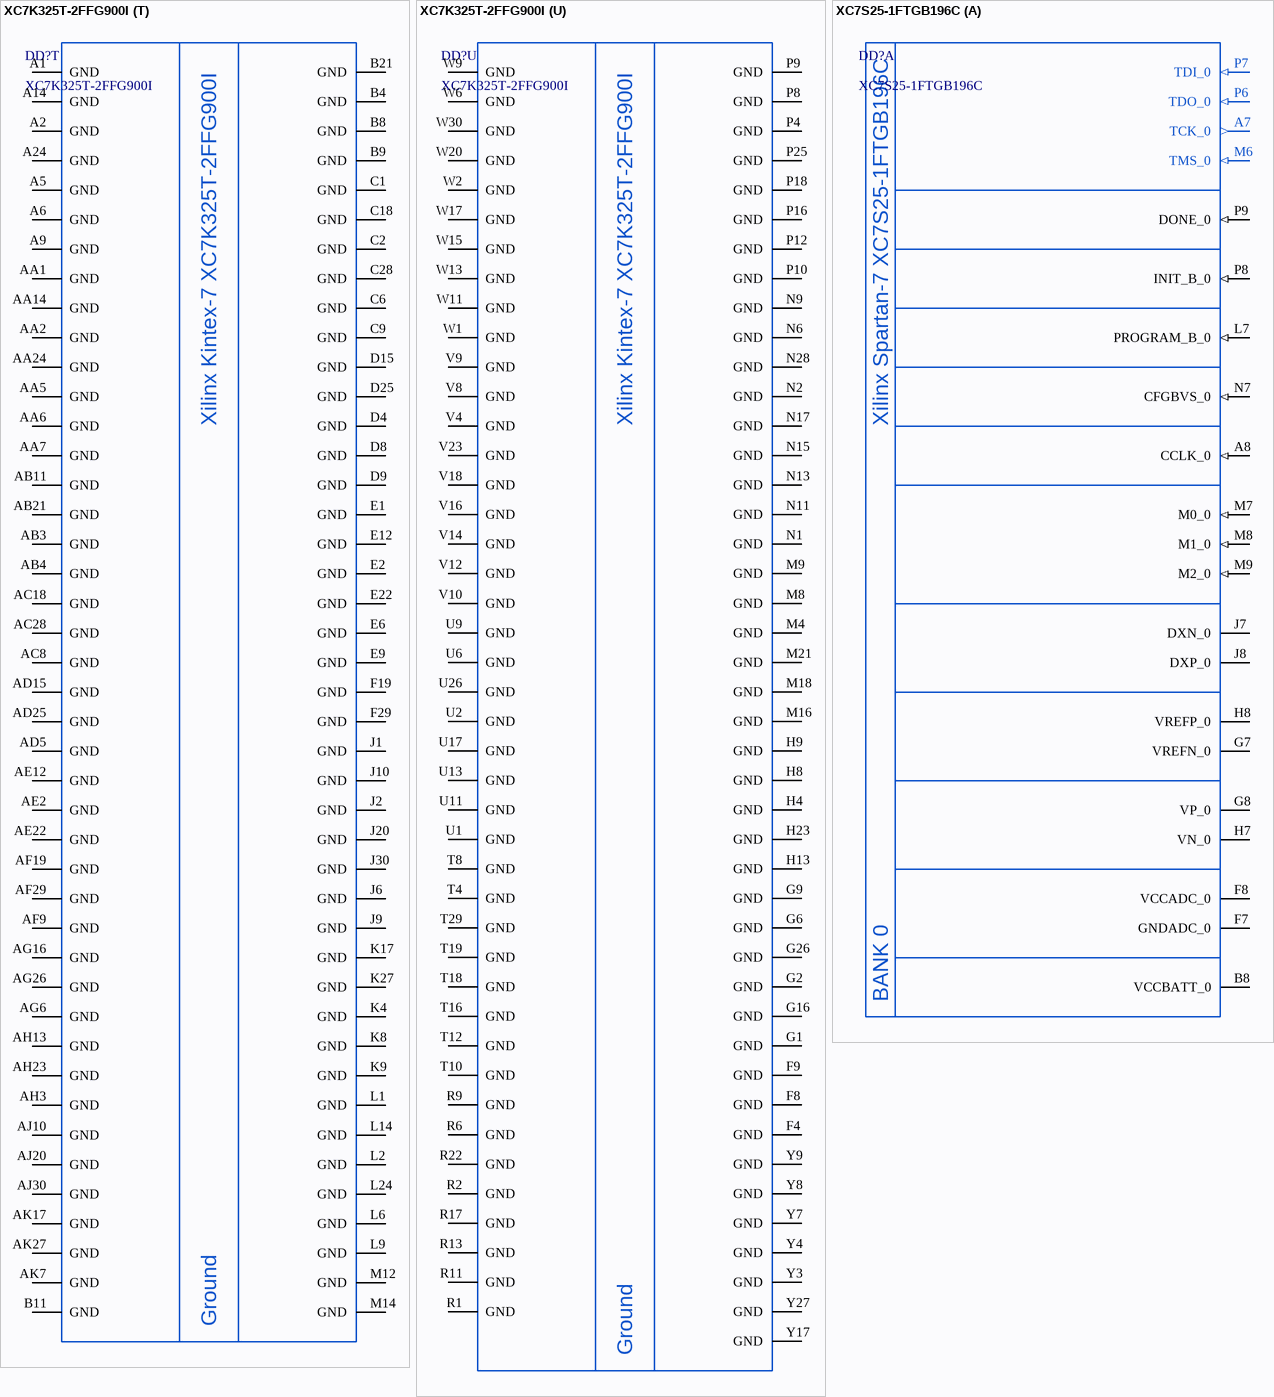
[diagram p35: symbols XC7K325T-2FFG900I to XC7S25-1FTGB196С]

## XC7K325T-2FFG900I
designator DD?
Kintex-7 FPGA, 500 User I/Os, 16 GTX, 900-Ball BGA, Speed Grade 2; Manufacturer: Xilinx; ItemType: IC; Speed Grade: -2; PartNumber: XC7K325T-2FFG900I; Package: FFG900; Marking: XC7K325T; ItemSubType: FPGA; Mounting: SMD
footprint FFG900_XC7K325T (BGA, 900-Leads, Body 31,00x31,00mmx3,35mm, Pitch 1,00mm)
part A pins: A10 INIT_B_0 (in), AB1 M2_0 (in), AB2 M1_0 (in), AB5 M0_0 (in), B10 CCLK_0 (out), C10 VCCBATT_0 (power), E10 TCK_0 (in), F10 TMS_0 (in), G10 TDO_0 (out), H10 TDI_0 (in), K10 PROGRAM_B_0 (in), L10 CFGBVS_0 (in), M10 DONE_0 (out), P14 GNDADC_0, P15 VCCADC_0 (power), R14 VREFN_0, R15 VP_0 (in), T14 VN_0 (in), T15 VREFP_0, U14 DXN_0, U15 DXP_0
part B pins: AA20 IO_L6P_T0_12 (io), AA21 IO_L2N_T0_12 (io), AA22 IO_L4P_T0_12 (io), AA23 IO_L4N_T0_12 (io), AB20 IO_L6N_T0_VREF_12 (io), AB22 IO_L3P_T0_DQS_12 (io), AB23 IO_L3N_T0_DQS_12 (io), AB24 IO_L7P_T1_12 (io), AC20 IO_L5P_T0_12 (io), AC21 IO_L5N_T0_12 (io), AC22 IO_L8P_T1_12 (io), AC24 IO_L9P_T1_DQS_12 (io), AC25 IO_L7N_T1_12 (io), AD21 IO_L10P_T1_12 (io), AD22 IO_L8N_T1_12 (io), AD23 IO_L12P_T1_MRCC_12 (io), AD24 IO_L9N_T1_DQS_12 (io), AE20 IO_25_12 (io), AE21 IO_L10N_T1_12 (io), AE23 IO_L11P_T1_SRCC_12 (io), AE24 IO_L12N_T1_MRCC_12 (io), AE25 IO_L16P_T2_12 (io), AF20 IO_L19P_T3_12 (io), AF21 IO_L19N_T3_VREF_12 (io), AF22 IO_L13P_T2_MRCC_12 (io), AF23 IO_L11N_T1_SRCC_12 (io), AF25 IO_L16N_T2_12 (io), AG20 IO_L22P_T3_12 (io), AG22 IO_L20P_T3_12 (io), AG23 IO_L13N_T2_MRCC_12 (io), AG24 IO_L14P_T2_SRCC_12 (io), AG25 IO_L18P_T2_12 (io), AH20 IO_L22N_T3_12 (io), AH21 IO_L23P_T3_12 (io), AH22 IO_L20N_T3_12 (io), AH24 IO_L14N_T2_SRCC_12 (io), AH25 IO_L18N_T2_12 (io), AJ21 IO_L23N_T3_12 (io), AJ22 IO_L21P_T3_DQS_12 (io), AJ23 IO_L21N_T3_DQS_12 (io), AJ24 IO_L15P_T2_DQS_12 (io), AK20 IO_L24P_T3_12 (io), AK21 IO_L24N_T3_12 (io), AK23 IO_L17P_T2_12 (io), AK24 IO_L17N_T2_12 (io), AK25 IO_L15N_T2_DQS_12 (io), Y20 IO_0_12 (io), Y21 IO_L2P_T0_12 (io), Y23 IO_L1P_T0_12 (io), Y24 IO_L1N_T0_12 (io)
part C pins: AA25 IO_L6P_T0_13 (io), AA26 IO_L1N_T0_13 (io), AA27 IO_L5P_T0_13 (io), AA28 IO_L3N_T0_DQS_13 (io), AA30 IO_L8N_T1_13 (io), AB25 IO_L6N_T0_VREF_13 (io), AB27 IO_L12P_T1_MRCC_13 (io), AB28 IO_L5N_T0_13 (io), AB29 IO_L10P_T1_13 (io), AB30 IO_L10N_T1_13 (io), AC26 IO_L19P_T3_13 (io), AC27 IO_L12N_T1_MRCC_13 (io), AC29 IO_L7P_T1_13 (io), AC30 IO_L7N_T1_13 (io), AD26 IO_L19N_T3_VREF_13 (io), AD27 IO_L11P_T1_SRCC_13 (io), AD28 IO_L11N_T1_SRCC_13 (io), AD29 IO_L9P_T1_DQS_13 (io), AE26 IO_25_13 (io), AE28 IO_L14P_T2_SRCC_13 (io), AE29 IO_L9N_T1_DQS_13 (io), AE30 IO_L16P_T2_13 (io), AF26 IO_L23P_T3_13 (io), AF27 IO_L23N_T3_13 (io), AF28 IO_L14N_T2_SRCC_13 (io), AF30 IO_L16N_T2_13 (io), AG27 IO_L21P_T3_DQS_13 (io), AG28 IO_L21N_T3_DQS_13 (io), AG29 IO_L13P_T2_MRCC_13 (io), AG30 IO_L18P_T2_13 (io), AH26 IO_L22P_T3_13 (io), AH27 IO_L22N_T3_13 (io), AH29 IO_L13N_T2_MRCC_13 (io), AH30 IO_L18N_T2_13 (io), AJ26 IO_L24P_T3_13 (io), AJ27 IO_L20P_T3_13 (io), AJ28 IO_L17P_T2_13 (io), AJ29 IO_L17N_T2_13 (io), AK26 IO_L24N_T3_13 (io), AK28 IO_L20N_T3_13 (io), AK29 IO_L15P_T2_DQS_13 (io), AK30 IO_L15N_T2_DQS_13 (io), W27 IO_L2P_T0_13 (io), W28 IO_L2N_T0_13 (io), W29 IO_L4P_T0_13 (io), Y25 IO_0_13 (io), Y26 IO_L1P_T0_13 (io), Y28 IO_L3P_T0_DQS_13 (io), Y29 IO_L4N_T0_13 (io), Y30 IO_L8P_T1_13 (io)
part D pins: P24 IO_L1P_T0_D00_MOSI_14 (io), P26 IO_L10P_T1_D14_14 (io), P27 IO_L8P_T1_D11_14 (io), P28 IO_L8N_T1_D12_14 (io), P29 IO_L7P_T1_D09_14 (io), R19 IO_0_14 (io), R20 IO_L2P_T0_D02_14 (io), R21 IO_L2N_T0_D03_14 (io), R23 IO_L3P_T0_DQS_PUDC_B_14 (io), R24 IO_L3N_T0_DQS_EMCCLK_14 (io), R25 IO_L1N_T0_D01_DIN_14 (io), R26 IO_L10N_T1_D15_14 (io), R28 IO_L11P_T1_SRCC_14 (io), R29 IO_L7N_T1_D10_14 (io), R30 IO_L9P_T1_DQS_14 (io), T20 IO_L4P_T0_D04_14 (io), T21 IO_L4N_T0_D05_14 (io), T22 IO_L5P_T0_D06_14 (io), T23 IO_L5N_T0_D07_14 (io), T25 IO_L14P_T2_SRCC_14 (io), T26 IO_L12P_T1_MRCC_14 (io), T27 IO_L12N_T1_MRCC_14 (io), T28 IO_L11N_T1_SRCC_14 (io), T30 IO_L9N_T1_DQS_D13_14 (io), U19 IO_L6P_T0_FCS_B_14 (io), U20 IO_L6N_T0_D08_VREF_14 (io), U22 IO_L21P_T3_DQS_14 (io), U23 IO_L21N_T3_DQS_A06_D22_14 (io), U24 IO_L23P_T3_A03_D19_14 (io), U25 IO_L14N_T2_SRCC_14 (io), U27 IO_L13P_T2_MRCC_14 (io), U28 IO_L13N_T2_MRCC_14 (io), U29 IO_L15P_T2_DQS_RDWR_B_14 (io), U30 IO_L15N_T2_DQS_DOUT_CSO_B_14 (io), V19 IO_L19P_T3_A10_D26_14 (io), V20 IO_L19N_T3_A09_D25_VREF_14 (io), V21 IO_L22P_T3_A05_D21_14 (io), V22 IO_L22N_T3_A04_D20_14 (io), V24 IO_L23N_T3_A02_D18_14 (io), V25 IO_L18P_T2_A12_D28_14 (io), V26 IO_L16P_T2_CSI_B_14 (io), V27 IO_L16N_T2_A15_D31_14 (io), V29 IO_L17P_T2_A14_D30_14 (io), V30 IO_L17N_T2_A13_D29_14 (io), W19 IO_25_14 (io), W21 IO_L24P_T3_A01_D17_14 (io), W22 IO_L24N_T3_A00_D16_14 (io), W23 IO_L20P_T3_A08_D24_14 (io), W24 IO_L20N_T3_A07_D23_14 (io), W26 IO_L18N_T2_A11_D27_14 (io)
part E pins: H29 IO_L7N_T1_AD10N_15 (io), J21 IO_L5P_T0_AD2P_15 (io), J22 IO_L5N_T0_AD2N_15 (io), J23 IO_L1P_T0_AD0P_15 (io), J24 IO_L1N_T0_AD0N_15 (io), J26 IO_L10N_T1_AD4N_15 (io), J27 IO_L8P_T1_AD3P_15 (io), J28 IO_L8N_T1_AD3N_15 (io), J29 IO_L7P_T1_AD10P_15 (io), K21 IO_L4N_T0_AD9N_15 (io), K23 IO_L3P_T0_DQS_AD1P_15 (io), K24 IO_L3N_T0_DQS_AD1N_15 (io), K25 IO_L12N_T1_MRCC_AD5N_15 (io), K26 IO_L10P_T1_AD4P_15 (io), K28 IO_L13P_T2_MRCC_15 (io), K29 IO_L13N_T2_MRCC_15 (io), K30 IO_L9N_T1_DQS_AD11N_15 (io), L20 IO_L6N_T0_VREF_15 (io), L21 IO_L4P_T0_AD9P_15 (io), L22 IO_L2P_T0_AD8P_15 (io), L23 IO_L2N_T0_AD8N_15 (io), L25 IO_L12P_T1_MRCC_AD5P_15 (io), L26 IO_L11P_T1_SRCC_AD12P_15 (io), L27 IO_L11N_T1_SRCC_AD12N_15 (io), L28 IO_L14N_T2_SRCC_15 (io), L30 IO_L9P_T1_DQS_AD11P_15 (io), M19 IO_0_15 (io), M20 IO_L6P_T0_15 (io), M22 IO_L24P_T3_RS1_15 (io), M23 IO_L24N_T3_RS0_15 (io), M24 IO_L23P_T3_FOE_B_15 (io), M25 IO_L23N_T3_FWE_B_15 (io), M27 IO_L16N_T2_A27_15 (io), M28 IO_L14P_T2_SRCC_15 (io), M29 IO_L15P_T2_DQS_15 (io), M30 IO_L15N_T2_DQS_ADV_B_15 (io), N19 IO_L19P_T3_A22_15 (io), N20 IO_L19N_T3_A21_VREF_15 (io), N21 IO_L20P_T3_A20_15 (io), N22 IO_L20N_T3_A19_15 (io), N24 IO_L21N_T3_DQS_A18_15 (io), N25 IO_L18P_T2_A24_15 (io), N26 IO_L18N_T2_A23_15 (io), N27 IO_L16P_T2_A28_15 (io), N29 IO_L17P_T2_A26_15 (io), N30 IO_L17N_T2_A25_15 (io), P19 IO_25_15 (io), P21 IO_L22P_T3_A17_15 (io), P22 IO_L22N_T3_A16_15 (io), P23 IO_L21P_T3_DQS_15 (io)
part F pins: A23 IO_L1N_T0_16 (io), A25 IO_L10P_T1_16 (io), A26 IO_L10N_T1_16 (io), A27 IO_L7N_T1_16 (io), A28 IO_L9N_T1_DQS_16 (io), A30 IO_L17N_T2_16 (io), B23 IO_L1P_T0_16 (io), B24 IO_L8N_T1_16 (io), B25 IO_L12N_T1_MRCC_16 (io), B27 IO_L7P_T1_16 (io), B28 IO_L9P_T1_DQS_16 (io), B29 IO_L15N_T2_DQS_16 (io), B30 IO_L17P_T2_16 (io), C24 IO_L8P_T1_16 (io), C25 IO_L12P_T1_MRCC_16 (io), C26 IO_L11N_T1_SRCC_16 (io), C27 IO_L13N_T2_MRCC_16 (io), C29 IO_L15P_T2_DQS_16 (io), C30 IO_L16N_T2_16 (io), D23 IO_L2N_T0_16 (io), D24 IO_L4N_T0_16 (io), D26 IO_L11P_T1_SRCC_16 (io), D27 IO_L13P_T2_MRCC_16 (io), D28 IO_L14N_T2_SRCC_16 (io), D29 IO_L16P_T2_16 (io), E23 IO_L2P_T0_16 (io), E24 IO_L4P_T0_16 (io), E25 IO_L3N_T0_DQS_16 (io), E26 IO_L5N_T0_16 (io), E28 IO_L14P_T2_SRCC_16 (io), E29 IO_L18P_T2_16 (io), E30 IO_L18N_T2_16 (io), F23 IO_0_16 (io), F25 IO_L3P_T0_DQS_16 (io), F26 IO_L5P_T0_16 (io), F27 IO_L21N_T3_DQS_16 (io), F28 IO_L20N_T3_16 (io), F30 IO_L22N_T3_16 (io), G23 IO_L6P_T0_16 (io), G24 IO_L6N_T0_VREF_16 (io), G25 IO_25_16 (io), G27 IO_L21P_T3_DQS_16 (io), G28 IO_L20P_T3_16 (io), G29 IO_L22P_T3_16 (io), G30 IO_L24N_T3_16 (io), H24 IO_L19P_T3_16 (io), H25 IO_L19N_T3_VREF_16 (io), H26 IO_L23P_T3_16 (io), H27 IO_L23N_T3_16 (io), H30 IO_L24P_T3_16 (io)
part G pins: A16 IO_L20P_T3_17 (io), A17 IO_L20N_T3_17 (io), A18 IO_L22N_T3_17 (io), A20 IO_L21P_T3_DQS_17 (io), A21 IO_L21N_T3_DQS_17 (io), A22 IO_L23N_T3_17 (io), B17 IO_L17N_T2_17 (io), B18 IO_L22P_T3_17 (io), B19 IO_L24N_T3_17 (io), B20 IO_L19N_T3_VREF_17 (io), B22 IO_L23P_T3_17 (io), C16 IO_L15N_T2_DQS_17 (io), C17 IO_L17P_T2_17 (io), C19 IO_L24P_T3_17 (io), C20 IO_L19P_T3_17 (io), C21 IO_L8N_T1_17 (io), C22 IO_L10N_T1_17 (io), D16 IO_L15P_T2_DQS_17 (io), D17 IO_L13P_T2_MRCC_17 (io), D18 IO_L13N_T2_MRCC_17 (io), D19 IO_L14N_T2_SRCC_17 (io), D21 IO_L8P_T1_17 (io), D22 IO_L10P_T1_17 (io), E18 IO_25_17 (io), E19 IO_L14P_T2_SRCC_17 (io), E20 IO_L12N_T1_MRCC_17 (io), E21 IO_L11N_T1_SRCC_17 (io), F17 IO_L18N_T2_17 (io), F18 IO_L16N_T2_17 (io), F20 IO_L12P_T1_MRCC_17 (io), F21 IO_L11P_T1_SRCC_17 (io), F22 IO_L9N_T1_DQS_17 (io), G17 IO_L18P_T2_17 (io), G18 IO_L16P_T2_17 (io), G19 IO_0_17 (io), G20 IO_L2N_T0_17 (io), G22 IO_L9P_T1_DQS_17 (io), H17 IO_L3N_T0_DQS_17 (io), H19 IO_L4N_T0_17 (io), H20 IO_L2P_T0_17 (io), H21 IO_L7P_T1_17 (io), H22 IO_L7N_T1_17 (io), J17 IO_L3P_T0_DQS_17 (io), J18 IO_L1N_T0_17 (io), J19 IO_L4P_T0_17 (io), K18 IO_L1P_T0_17 (io), K19 IO_L6P_T0_17 (io), K20 IO_L6N_T0_VREF_17 (io), L17 IO_L5P_T0_17 (io), L18 IO_L5N_T0_17 (io)
part H pins: A11 IO_L17P_T2_18 (io), A12 IO_L17N_T2_18 (io), A13 IO_L22N_T3_18 (io), A15 IO_L24N_T3_18 (io), B12 IO_L15N_T2_DQS_18 (io), B13 IO_L22P_T3_18 (io), B14 IO_L24P_T3_18 (io), B15 IO_L23N_T3_18 (io), C11 IO_L18N_T2_18 (io), C12 IO_L15P_T2_DQS_18 (io), C14 IO_L21N_T3_DQS_18 (io), C15 IO_L23P_T3_18 (io), D11 IO_L18P_T2_18 (io), D12 IO_L13P_T2_MRCC_18 (io), D13 IO_L13N_T2_MRCC_18 (io), D14 IO_L21P_T3_DQS_18 (io), E11 IO_L16N_T2_18 (io), E13 IO_L14N_T2_SRCC_18 (io), E14 IO_L20P_T3_18 (io), E15 IO_L20N_T3_18 (io), E16 IO_L19N_T3_VREF_18 (io), F11 IO_L16P_T2_18 (io), F12 IO_L14P_T2_SRCC_18 (io), F13 IO_L12N_T1_MRCC_18 (io), F15 IO_L19P_T3_18 (io), F16 IO_25_18 (io), G12 IO_0_18 (io), G13 IO_L12P_T1_MRCC_18 (io), G14 IO_L11N_T1_SRCC_18 (io), G15 IO_L7N_T1_18 (io), H11 IO_L10P_T1_18 (io), H12 IO_L10N_T1_18 (io), H14 IO_L11P_T1_SRCC_18 (io), H15 IO_L7P_T1_18 (io), H16 IO_L9N_T1_DQS_18 (io), J11 IO_L8P_T1_18 (io), J12 IO_L8N_T1_18 (io), J13 IO_L4N_T0_18 (io), J14 IO_L5N_T0_18 (io), J16 IO_L9P_T1_DQS_18 (io), K11 IO_L6N_T0_VREF_18 (io), K13 IO_L4P_T0_18 (io), K14 IO_L5P_T0_18 (io), K15 IO_L2N_T0_18 (io), K16 IO_L1N_T0_18 (io), L11 IO_L6P_T0_18 (io), L12 IO_L3P_T0_DQS_18 (io), L13 IO_L3N_T0_DQS_18 (io), L15 IO_L2P_T0_18 (io), L16 IO_L1P_T0_18 (io)
part I pins: AA15 IO_L20P_T3_32 (io), AA16 IO_L23N_T3_32 (io), AA17 IO_L23P_T3_32 (io), AA18 IO_L16P_T2_32 (io), AB14 IO_25_VRP_32 (io), AB15 IO_L20N_T3_32 (io), AB17 IO_L18P_T2_32 (io), AB18 IO_L16N_T2_32 (io), AB19 IO_L17P_T2_32 (io), AC14 IO_L22P_T3_32 (io), AC15 IO_L21N_T3_DQS_32 (io), AC16 IO_L21P_T3_DQS_32 (io), AC17 IO_L18N_T2_32 (io), AC19 IO_L17N_T2_32 (io), AD14 IO_L22N_T3_32 (io), AD16 IO_L14N_T2_SRCC_32 (io), AD17 IO_L14P_T2_SRCC_32 (io), AD18 IO_L13P_T2_MRCC_32 (io), AD19 IO_L10P_T1_32 (io), AE14 IO_L19N_T3_VREF_32 (io), AE15 IO_L19P_T3_32 (io), AE16 IO_L6P_T0_32 (io), AE18 IO_L13N_T2_MRCC_32 (io), AE19 IO_L10N_T1_32 (io), AF15 IO_L4P_T0_32 (io), AF16 IO_L6N_T0_VREF_32 (io), AF17 IO_L12P_T1_MRCC_32 (io), AF18 IO_L11P_T1_SRCC_32 (io), AG14 IO_L4N_T0_32 (io), AG15 IO_L2P_T0_32 (io), AG17 IO_L12N_T1_MRCC_32 (io), AG18 IO_L11N_T1_SRCC_32 (io), AG19 IO_L8P_T1_32 (io), AH15 IO_L2N_T0_32 (io), AH16 IO_L3P_T0_DQS_32 (io), AH17 IO_L5P_T0_32 (io), AH19 IO_L8N_T1_32 (io), AJ16 IO_L3N_T0_DQS_32 (io), AJ17 IO_L5N_T0_32 (io), AJ18 IO_L9P_T1_DQS_32 (io), AJ19 IO_L7P_T1_32 (io), AK15 IO_L1N_T0_32 (io), AK16 IO_L1P_T0_32 (io), AK18 IO_L9N_T1_DQS_32 (io), AK19 IO_L7N_T1_32 (io), Y14 IO_0_VRN_32 (io), Y15 IO_L24N_T3_32 (io), Y16 IO_L24P_T3_32 (io), Y18 IO_L15N_T2_DQS_32 (io), Y19 IO_L15P_T2_DQS_32 (io)
part J pins: AA8 IO_L2P_T0_33 (io), AA10 IO_L5N_T0_33 (io), AA11 IO_L5P_T0_33 (io), AA12 IO_L1P_T0_33 (io), AA13 IO_L6P_T0_33 (io), AB8 IO_L2N_T0_33 (io), AB9 IO_L3P_T0_DQS_33 (io), AB10 IO_L7P_T1_33 (io), AB12 IO_L1N_T0_33 (io), AB13 IO_L6N_T0_VREF_33 (io), AC9 IO_L3N_T0_DQS_33 (io), AC10 IO_L7N_T1_33 (io), AC11 IO_L9N_T1_DQS_33 (io), AC12 IO_L9P_T1_DQS_33 (io), AD8 IO_L8P_T1_33 (io), AD9 IO_L10P_T1_33 (io), AD11 IO_L12N_T1_MRCC_33 (io), AD12 IO_L12P_T1_MRCC_33 (io), AD13 IO_25_VRP_33 (io), AE8 IO_L8N_T1_33 (io), AE9 IO_L10N_T1_33 (io), AE10 IO_L14P_T2_SRCC_33 (io), AE11 IO_L11P_T1_SRCC_33 (io), AE13 IO_L19P_T3_33 (io), AF10 IO_L14N_T2_SRCC_33 (io), AF11 IO_L11N_T1_SRCC_33 (io), AF12 IO_L23P_T3_33 (io), AF13 IO_L19N_T3_VREF_33 (io), AG9 IO_L16P_T2_33 (io), AG10 IO_L13P_T2_MRCC_33 (io), AG12 IO_L23N_T3_33 (io), AG13 IO_L24P_T3_33 (io), AH9 IO_L16N_T2_33 (io), AH10 IO_L13N_T2_MRCC_33 (io), AH11 IO_L18P_T2_33 (io), AH12 IO_L24N_T3_33 (io), AH14 IO_L21P_T3_DQS_33 (io), AJ9 IO_L15P_T2_DQS_33 (io), AJ11 IO_L18N_T2_33 (io), AJ12 IO_L22N_T3_33 (io), AJ13 IO_L22P_T3_33 (io), AJ14 IO_L21N_T3_DQS_33 (io), AK9 IO_L15N_T2_DQS_33 (io), AK10 IO_L17N_T2_33 (io), AK11 IO_L17P_T2_33 (io), AK13 IO_L20N_T3_33 (io), AK14 IO_L20P_T3_33 (io), Y10 IO_L4N_T0_33 (io), Y11 IO_L4P_T0_33 (io), Y13 IO_0_VRN_33 (io)
part K pins: AB7 IO_25_VRP_34 (io), AC1 IO_L2N_T0_34 (io), AC2 IO_L2P_T0_34 (io), AC4 IO_L4N_T0_34 (io), AC5 IO_L4P_T0_34 (io), AC6 IO_0_VRN_34 (io), AC7 IO_L6P_T0_34 (io), AD1 IO_L3N_T0_DQS_34 (io), AD2 IO_L3P_T0_DQS_34 (io), AD3 IO_L1N_T0_34 (io), AD4 IO_L1P_T0_34 (io), AD6 IO_L5P_T0_34 (io), AD7 IO_L6N_T0_VREF_34 (io), AE1 IO_L8P_T1_34 (io), AE3 IO_L10N_T1_34 (io), AE4 IO_L10P_T1_34 (io), AE5 IO_L11P_T1_SRCC_34 (io), AE6 IO_L5N_T0_34 (io), AF1 IO_L8N_T1_34 (io), AF2 IO_L7N_T1_34 (io), AF3 IO_L7P_T1_34 (io), AF5 IO_L11N_T1_SRCC_34 (io), AF6 IO_L12P_T1_MRCC_34 (io), AF7 IO_L20P_T3_34 (io), AF8 IO_L19P_T3_34 (io), AG2 IO_L15P_T2_DQS_34 (io), AG3 IO_L9N_T1_DQS_34 (io), AG4 IO_L9P_T1_DQS_34 (io), AG5 IO_L12N_T1_MRCC_34 (io), AG7 IO_L20N_T3_34 (io), AG8 IO_L19N_T3_VREF_34 (io), AH1 IO_L15N_T2_DQS_34 (io), AH2 IO_L16P_T2_34 (io), AH4 IO_L13P_T2_MRCC_34 (io), AH5 IO_L14N_T2_SRCC_34 (io), AH6 IO_L14P_T2_SRCC_34 (io), AH7 IO_L21P_T3_DQS_34 (io), AJ1 IO_L17P_T2_34 (io), AJ2 IO_L16N_T2_34 (io), AJ3 IO_L18P_T2_34 (io), AJ4 IO_L13N_T2_MRCC_34 (io), AJ6 IO_L22P_T3_34 (io), AJ7 IO_L21N_T3_DQS_34 (io), AJ8 IO_L23P_T3_34 (io), AK1 IO_L17N_T2_34 (io), AK3 IO_L18N_T2_34 (io), AK4 IO_L24N_T3_34 (io), AK5 IO_L24P_T3_34 (io), AK6 IO_L22N_T3_34 (io), AK8 IO_L23N_T3_34 (io)
part L pins: AA3 MGTXRXN0_115 (in), AA4 MGTXRXP0_115 (in), R7 MGTREFCLK0N_115 (in), R8 MGTREFCLK0P_115 (in), T1 MGTXTXN3_115 (out), T2 MGTXTXP3_115 (out), U3 MGTXTXN2_115 (out), U4 MGTXTXP2_115 (out), U7 MGTREFCLK1N_115 (in), U8 MGTREFCLK1P_115 (in), V1 MGTXTXN1_115 (out), V2 MGTXTXP1_115 (out), V5 MGTXRXN3_115 (in), V6 MGTXRXP3_115 (in), W3 MGTXRXN2_115 (in), W4 MGTXRXP2_115 (in), W7 MGTAVTTRCAL_115, W8 MGTRREF_115, Y1 MGTXTXN0_115 (out), Y2 MGTXTXP0_115 (out), Y5 MGTXRXN1_115 (in), Y6 MGTXRXP1_115 (in)
part M pins: L3 MGTXTXN3_116 (out), L4 MGTXTXP3_116 (out), L7 MGTREFCLK0N_116 (in), L8 MGTREFCLK0P_116 (in), M1 MGTXTXN2_116 (out), M2 MGTXTXP2_116 (out), M5 MGTXRXN3_116 (in), M6 MGTXRXP3_116 (in), N3 MGTXTXN1_116 (out), N4 MGTXTXP1_116 (out), N7 MGTREFCLK1N_116 (in), N8 MGTREFCLK1P_116 (in), P1 MGTXTXN0_116 (out), P2 MGTXTXP0_116 (out), P5 MGTXRXN2_116 (in), P6 MGTXRXP2_116 (in), R3 MGTXRXN1_116 (in), R4 MGTXRXP1_116 (in), T5 MGTXRXN0_116 (in), T6 MGTXRXP0_116 (in)
part N pins: F1 MGTXTXN3_117 (out), F2 MGTXTXP3_117 (out), F5 MGTXRXN3_117 (in), F6 MGTXRXP3_117 (in), G3 MGTXRXN2_117 (in), G4 MGTXRXP2_117 (in), G7 MGTREFCLK0N_117 (in), G8 MGTREFCLK0P_117 (in), H1 MGTXTXN2_117 (out), H2 MGTXTXP2_117 (out), H5 MGTXRXN1_117 (in), H6 MGTXRXP1_117 (in), J3 MGTXTXN1_117 (out), J4 MGTXTXP1_117 (out), J7 MGTREFCLK1N_117 (in), J8 MGTREFCLK1P_117 (in), K1 MGTXTXN0_117 (out), K2 MGTXTXP0_117 (out), K5 MGTXRXN0_117 (in), K6 MGTXRXP0_117 (in)
part O pins: A3 MGTXTXN3_118 (out), A4 MGTXTXP3_118 (out), A7 MGTXRXN3_118 (in), A8 MGTXRXP3_118 (in), B1 MGTXTXN2_118 (out), B2 MGTXTXP2_118 (out), B5 MGTXRXN2_118 (in), B6 MGTXRXP2_118 (in), C3 MGTXTXN1_118 (out), C4 MGTXTXP1_118 (out), C7 MGTREFCLK0N_118 (in), C8 MGTREFCLK0P_118 (in), D1 MGTXTXN0_118 (out), D2 MGTXTXP0_118 (out), D5 MGTXRXN1_118 (in), D6 MGTXRXP1_118 (in), E3 MGTXRXN0_118 (in), E4 MGTXRXP0_118 (in), E7 MGTREFCLK1N_118 (in), E8 MGTREFCLK1P_118 (in)
part P pins: B3 MGTAVTT (power), B7 MGTAVCC (power), C5 MGTAVTT (power), D3 MGTAVTT (power), D7 MGTAVCC (power), E5 MGTAVTT (power), F3 MGTAVTT (power), F7 MGTAVCC (power), G5 MGTAVTT (power), H3 MGTAVTT (power), H7 MGTAVCC (power), J5 MGTAVTT (power), K3 MGTAVTT (power), K7 MGTAVCC (power), L5 MGTAVTT (power), M3 MGTAVTT (power), M7 MGTAVCC (power), N5 MGTAVTT (power), P3 MGTAVTT (power), P7 MGTAVCC (power), R5 MGTAVTT (power), T3 MGTAVTT (power), T7 MGTVCCAUX (power), U5 MGTAVTT (power), V3 MGTAVTT (power), V7 MGTVCCAUX (power), W5 MGTAVTT (power)
part Q pins: A19 VCCO_17 (power), A29 VCCO_16 (power), AA29 VCCO_13 (power), AB6 VCCO_0 (power), AB26 VCCO_13 (power), AC23 VCCO_12 (power), AD20 VCCO_12 (power), AD30 VCCO_13 (power), AE27 VCCO_13 (power), AF24 VCCO_12 (power), AG21 VCCO_12 (power), AH28 VCCO_13 (power), AJ25 VCCO_13 (power), AK22 VCCO_12 (power), B16 VCCO_17 (power), B26 VCCO_16 (power), C13 VCCO_18 (power), C23 VCCO_16 (power), D10 VCCO_18 (power), D20 VCCO_17 (power), D30 VCCO_16 (power), E17 VCCO_17 (power), E27 VCCO_16 (power), F14 VCCO_18 (power), F24 VCCO_16 (power), G11 VCCO_18 (power), G21 VCCO_17 (power), H18 VCCO_17 (power), H28 VCCO_16 (power), J15 VCCO_18 (power), J25 VCCO_15 (power), K12 VCCO_18 (power), K22 VCCO_15 (power), L19 VCCO_17 (power), L29 VCCO_15 (power), M26 VCCO_15 (power), N23 VCCO_15 (power), P20 VCCO_15 (power), P30 VCCO_14 (power), R27 VCCO_14 (power), T9 VCCO_0 (power), T24 VCCO_14 (power), U21 VCCO_14 (power), V28 VCCO_14 (power), W25 VCCO_14 (power), Y22 VCCO_12 (power)
part R pins: AA9 VCCO_33 (power), AA19 VCCO_32 (power), AB16 VCCO_32 (power), AC3 VCCO_34 (power), AC13 VCCO_33 (power), AD10 VCCO_33 (power), AE7 VCCO_34 (power), AE17 VCCO_32 (power), AF4 VCCO_34 (power), AF14 VCCO_32 (power), AG1 VCCO_34 (power), AG11 VCCO_33 (power), AH8 VCCO_34 (power), AH18 VCCO_32 (power), AJ5 VCCO_34 (power), AJ15 VCCO_32 (power), AK2 VCCO_34 (power), AK12 VCCO_33 (power), Y12 VCCO_33 (power)
part S pins: M11 VCCINT (power), M13 VCCINT (power), M15 VCCINT (power), M17 VCCINT (power), N10 VCCINT (power), N12 VCCINT (power), N14 VCCINT (power), N16 VCCBRAM (power), N18 VCCINT (power), P11 VCCINT (power), P13 VCCAUX (power), P17 VCCINT (power), R10 VCCINT (power), R12 VCCINT (power), R16 VCCBRAM (power), R18 VCCINT (power), T11 VCCINT (power), T13 VCCAUX (power), T17 VCCINT (power), U10 VCCINT (power), U12 VCCINT (power), U16 VCCBRAM (power), U18 VCCINT (power), V11 VCCAUX_IO_G0 (power), V13 VCCAUX (power), V15 VCCAUX (power), V17 VCCINT (power), W10 VCCAUX_IO_G0 (power), W12 VCCAUX_IO_G0 (power), W14 VCCAUX (power), W16 VCCBRAM (power), W18 VCCINT (power)
part T pins: A1 GND, A2 GND, A5 GND, A6 GND, A9 GND, A14 GND, A24 GND, AA1 GND, AA2 GND, AA5 GND, AA6 GND, AA7 GND, AA14 GND, AA24 GND, AB3 GND, AB4 GND, AB11 GND, AB21 GND, AC8 GND, AC18 GND, AC28 GND, AD5 GND, AD15 GND, AD25 GND, AE2 GND, AE12 GND, AE22 GND, AF9 GND, AF19 GND, AF29 GND, AG6 GND, AG16 GND, AG26 GND, AH3 GND, AH13 GND, AH23 GND, AJ10 GND, AJ20 GND, AJ30 GND, AK7 GND, AK17 GND, AK27 GND, B4 GND, B8 GND, B9 GND, B11 GND, B21 GND, C1 GND, C2 GND, C6 GND, C9 GND, C18 GND, C28 GND, D4 GND, D8 GND, D9 GND, D15 GND, D25 GND, E1 GND, E2 GND, E6 GND, E9 GND, E12 GND, E22 GND, F19 GND, F29 GND, J1 GND, J2 GND, J6 GND, J9 GND, J10 GND, J20 GND, J30 GND, K4 GND, K8 GND, K9 GND, K17 GND, K27 GND, L1 GND, L2 GND, L6 GND, L9 GND, L14 GND, L24 GND, M12 GND, M14 GND
part U pins: F4 GND, F8 GND, F9 GND, G1 GND, G2 GND, G6 GND, G9 GND, G16 GND, G26 GND, H4 GND, H8 GND, H9 GND, H13 GND, H23 GND, M4 GND, M8 GND, M9 GND, M16 GND, M18 GND, M21 GND, N1 GND, N2 GND, N6 GND, N9 GND, N11 GND, N13 GND, N15 GND, N17 GND, N28 GND, P4 GND, P8 GND, P9 GND, P10 GND, P12 GND, P16 GND, P18 GND, P25 GND, R1 GND, R2 GND, R6 GND, R9 GND, R11 GND, R13 GND, R17 GND, R22 GND, T4 GND, T8 GND, T10 GND, T12 GND, T16 GND, T18 GND, T19 GND, T29 GND, U1 GND, U2 GND, U6 GND, U9 GND, U11 GND, U13 GND, U17 GND, U26 GND, V4 GND, V8 GND, V9 GND, V10 GND, V12 GND, V14 GND, V16 GND, V18 GND, V23 GND, W1 GND, W2 GND, W6 GND, W9 GND, W11 GND, W13 GND, W15 GND, W17 GND, W20 GND, W30 GND, Y3 GND, Y4 GND, Y7 GND, Y8 GND, Y9 GND, Y17 GND, Y27 GND
part A text: Xilinx Kintex-7 XC7K325T-2FFG900I; BANK 0
part B text: Xilinx Kintex-7 XC7K325T-2FFG900I; BANK 12
part C text: Xilinx Kintex-7 XC7K325T-2FFG900I; BANK 13
part D text: Xilinx Kintex-7 XC7K325T-2FFG900I; BANK 14
part E text: Xilinx Kintex-7 XC7K325T-2FFG900I; BANK 15
part F text: Xilinx Kintex-7 XC7K325T-2FFG900I; BANK 16
part G text: Xilinx Kintex-7 XC7K325T-2FFG900I; BANK 17
part H text: Xilinx Kintex-7 XC7K325T-2FFG900I; BANK 18
part I text: Xilinx Kintex-7 XC7K325T-2FFG900I; BANK 32
part J text: Xilinx Kintex-7 XC7K325T-2FFG900I; BANK 33
part K text: Xilinx Kintex-7 XC7K325T-2FFG900I; BANK 34
part L text: Xilinx Kintex-7 XC7K325T-2FFG900I; BANK 115
part M text: Xilinx Kintex-7 XC7K325T-2FFG900I; BANK 116
part N text: Xilinx Kintex-7 XC7K325T-2FFG900I; BANK 117
part O text: Xilinx Kintex-7 XC7K325T-2FFG900I; BANK 118
part P text: Xilinx Kintex-7 XC7K325T-2FFG900I; MGTX Power
part Q text: Xilinx Kintex-7 XC7K325T-2FFG900I
part R text: Xilinx Kintex-7 XC7K325T-2FFG900I
part S text: Xilinx Kintex-7 XC7K325T-2FFG900I
part T text: Xilinx Kintex-7 XC7K325T-2FFG900I; Ground
part U text: Xilinx Kintex-7 XC7K325T-2FFG900I; Ground

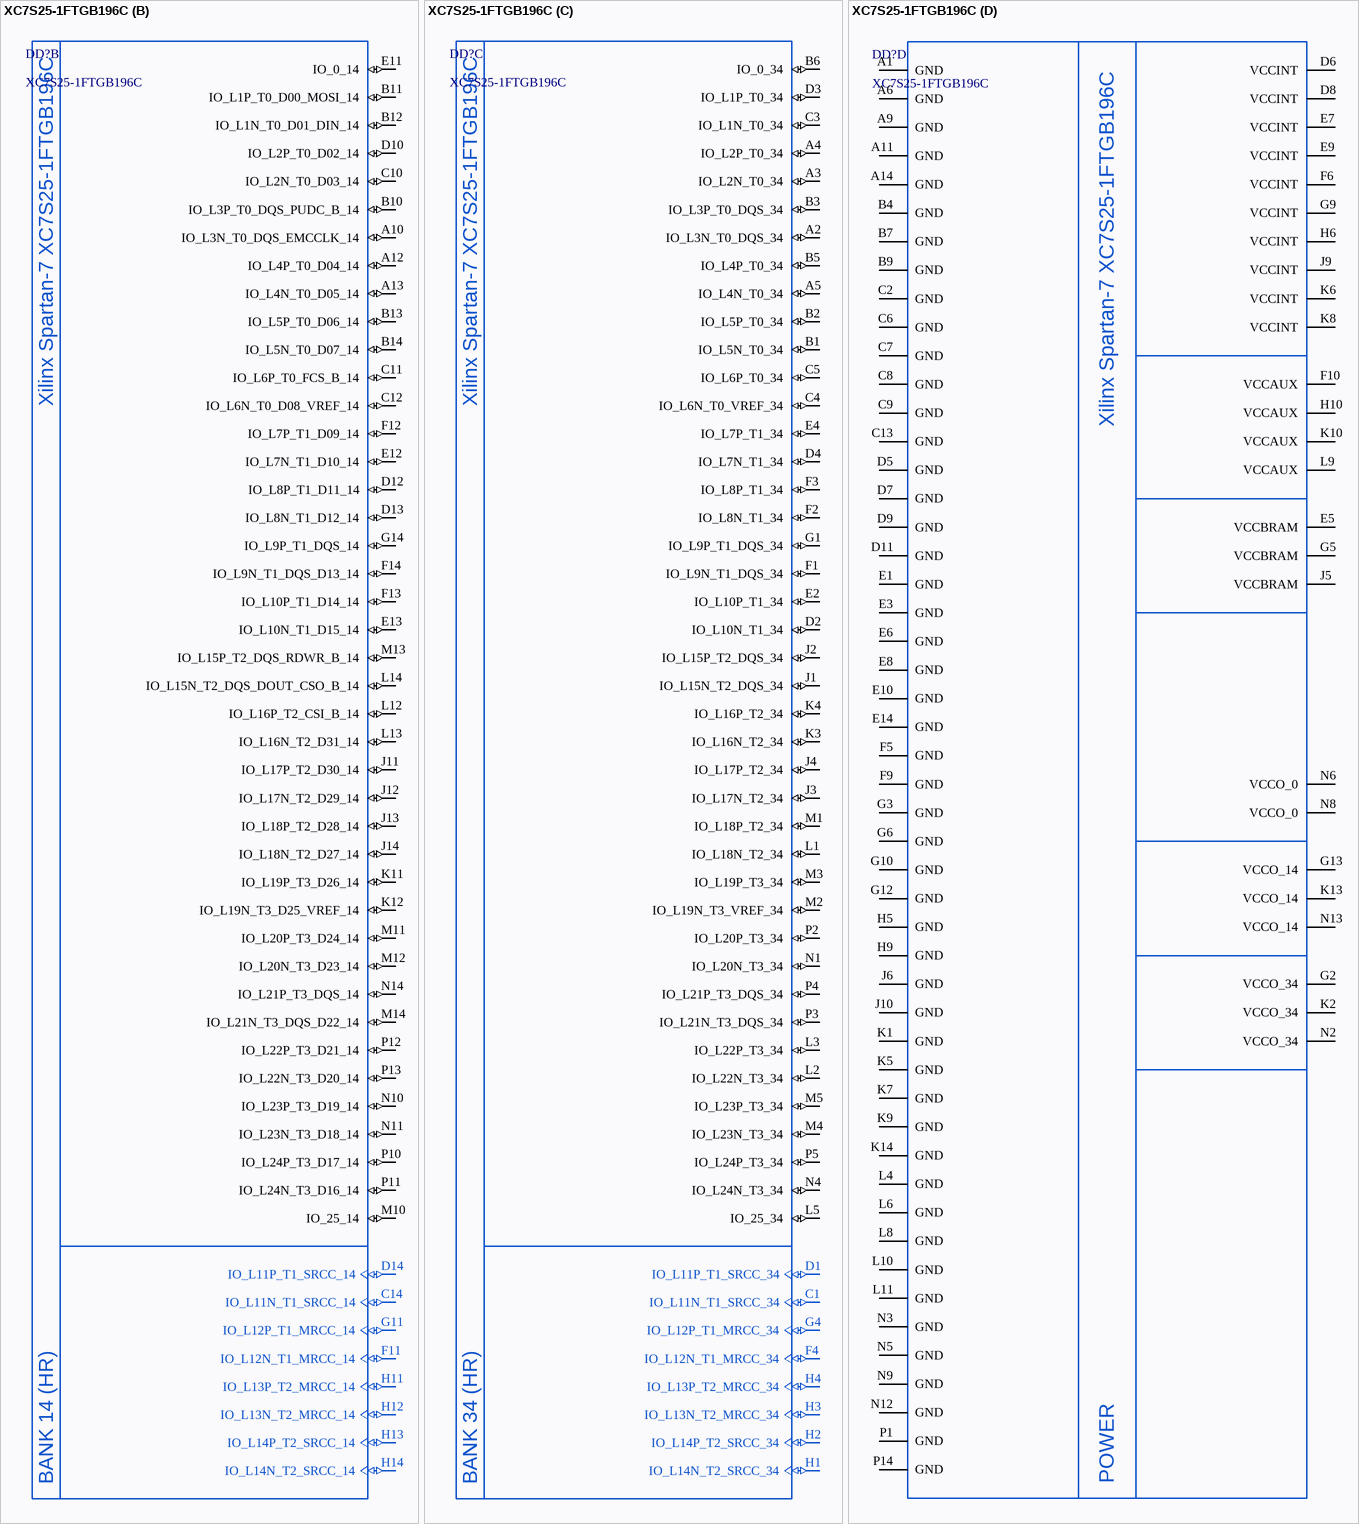
[diagram p36: symbol XC7S25-1FTGB196С]

## XC7S25-1FTGB196С
designator DD?
FPGA Spartan-7 Series, Speed Grade 1; Manufacturer: Xilinx; Speed Grade: -1; Marking: XC7S25; ItemType: IC; PartNumber: XC7S25-1FTGB196С; ComponentLink2Description: Package Specification; ComponentLink2URL: http://www.xilinx.com/support/documentation/user_guides/ug475_7Series_Pkg_Pinout.pdf; Package: FTGB-196; ItemSubType: FPGA; Mounting: SMD
footprint FTGB196_XC7S25 (BGA, 196-Leads, Body 15,00x15,00mmx1,55mm, Pitch 1,00mm)
part A pins: A7 TCK_0 (out), A8 CCLK_0 (in), B8 VCCBATT_0 (power), F7 GNDADC_0, F8 VCCADC_0 (power), G7 VREFN_0, G8 VP_0, H7 VN_0, H8 VREFP_0, J7 DXN_0, J8 DXP_0, L7 PROGRAM_B_0 (in), M6 TMS_0 (in), M7 M0_0 (in), M8 M1_0 (in), M9 M2_0 (in), N7 CFGBVS_0 (in), P6 TDO_0 (in), P7 TDI_0 (in), P8 INIT_B_0 (in), P9 DONE_0 (in)
part B pins: A10 IO_L3N_T0_DQS_EMCCLK_14 (io), A12 IO_L4P_T0_D04_14 (io), A13 IO_L4N_T0_D05_14 (io), B10 IO_L3P_T0_DQS_PUDC_B_14 (io), B11 IO_L1P_T0_D00_MOSI_14 (io), B12 IO_L1N_T0_D01_DIN_14 (io), B13 IO_L5P_T0_D06_14 (io), B14 IO_L5N_T0_D07_14 (io), C10 IO_L2N_T0_D03_14 (io), C11 IO_L6P_T0_FCS_B_14 (io), C12 IO_L6N_T0_D08_VREF_14 (io), C14 IO_L11N_T1_SRCC_14 (io), D10 IO_L2P_T0_D02_14 (io), D12 IO_L8P_T1_D11_14 (io), D13 IO_L8N_T1_D12_14 (io), D14 IO_L11P_T1_SRCC_14 (io), E11 IO_0_14 (io), E12 IO_L7N_T1_D10_14 (io), E13 IO_L10N_T1_D15_14 (io), F11 IO_L12N_T1_MRCC_14 (io), F12 IO_L7P_T1_D09_14 (io), F13 IO_L10P_T1_D14_14 (io), F14 IO_L9N_T1_DQS_D13_14 (io), G11 IO_L12P_T1_MRCC_14 (io), G14 IO_L9P_T1_DQS_14 (io), H11 IO_L13P_T2_MRCC_14 (io), H12 IO_L13N_T2_MRCC_14 (io), H13 IO_L14P_T2_SRCC_14 (io), H14 IO_L14N_T2_SRCC_14 (io), J11 IO_L17P_T2_D30_14 (io), J12 IO_L17N_T2_D29_14 (io), J13 IO_L18P_T2_D28_14 (io), J14 IO_L18N_T2_D27_14 (io), K11 IO_L19P_T3_D26_14 (io), K12 IO_L19N_T3_D25_VREF_14 (io), L12 IO_L16P_T2_CSI_B_14 (io), L13 IO_L16N_T2_D31_14 (io), L14 IO_L15N_T2_DQS_DOUT_CSO_B_14 (io), M10 IO_25_14 (io), M11 IO_L20P_T3_D24_14 (io), M12 IO_L20N_T3_D23_14 (io), M13 IO_L15P_T2_DQS_RDWR_B_14 (io), M14 IO_L21N_T3_DQS_D22_14 (io), N10 IO_L23P_T3_D19_14 (io), N11 IO_L23N_T3_D18_14 (io), N14 IO_L21P_T3_DQS_14 (io), P10 IO_L24P_T3_D17_14 (io), P11 IO_L24N_T3_D16_14 (io), P12 IO_L22P_T3_D21_14 (io), P13 IO_L22N_T3_D20_14 (io)
part C pins: A2 IO_L3N_T0_DQS_34 (io), A3 IO_L2N_T0_34 (io), A4 IO_L2P_T0_34 (io), A5 IO_L4N_T0_34 (io), B1 IO_L5N_T0_34 (io), B2 IO_L5P_T0_34 (io), B3 IO_L3P_T0_DQS_34 (io), B5 IO_L4P_T0_34 (io), B6 IO_0_34 (io), C1 IO_L11N_T1_SRCC_34 (io), C3 IO_L1N_T0_34 (io), C4 IO_L6N_T0_VREF_34 (io), C5 IO_L6P_T0_34 (io), D1 IO_L11P_T1_SRCC_34 (io), D2 IO_L10N_T1_34 (io), D3 IO_L1P_T0_34 (io), D4 IO_L7N_T1_34 (io), E2 IO_L10P_T1_34 (io), E4 IO_L7P_T1_34 (io), F1 IO_L9N_T1_DQS_34 (io), F2 IO_L8N_T1_34 (io), F3 IO_L8P_T1_34 (io), F4 IO_L12N_T1_MRCC_34 (io), G1 IO_L9P_T1_DQS_34 (io), G4 IO_L12P_T1_MRCC_34 (io), H1 IO_L14N_T2_SRCC_34 (io), H2 IO_L14P_T2_SRCC_34 (io), H3 IO_L13N_T2_MRCC_34 (io), H4 IO_L13P_T2_MRCC_34 (io), J1 IO_L15N_T2_DQS_34 (io), J2 IO_L15P_T2_DQS_34 (io), J3 IO_L17N_T2_34 (io), J4 IO_L17P_T2_34 (io), K3 IO_L16N_T2_34 (io), K4 IO_L16P_T2_34 (io), L1 IO_L18N_T2_34 (io), L2 IO_L22N_T3_34 (io), L3 IO_L22P_T3_34 (io), L5 IO_25_34 (io), M1 IO_L18P_T2_34 (io), M2 IO_L19N_T3_VREF_34 (io), M3 IO_L19P_T3_34 (io), M4 IO_L23N_T3_34 (io), M5 IO_L23P_T3_34 (io), N1 IO_L20N_T3_34 (io), N4 IO_L24N_T3_34 (io), P2 IO_L20P_T3_34 (io), P3 IO_L21N_T3_DQS_34 (io), P4 IO_L21P_T3_DQS_34 (io), P5 IO_L24P_T3_34 (io)
part D pins: A1 GND, A6 GND, A9 GND, A11 GND, A14 GND, B4 GND, B7 GND, B9 GND, C2 GND, C6 GND, C7 GND, C8 GND, C9 GND, C13 GND, D5 GND, D6 VCCINT (power), D7 GND, D8 VCCINT (power), D9 GND, D11 GND, E1 GND, E3 GND, E5 VCCBRAM (power), E6 GND, E7 VCCINT (power), E8 GND, E9 VCCINT (power), E10 GND, E14 GND, F5 GND, F6 VCCINT (power), F9 GND, F10 VCCAUX (power), G2 VCCO_34 (power), G3 GND, G5 VCCBRAM (power), G6 GND, G9 VCCINT (power), G10 GND, G12 GND, G13 VCCO_14 (power), H5 GND, H6 VCCINT (power), H9 GND, H10 VCCAUX (power), J5 VCCBRAM (power), J6 GND, J9 VCCINT (power), J10 GND, K1 GND, K2 VCCO_34 (power), K5 GND, K6 VCCINT (power), K7 GND, K8 VCCINT (power), K9 GND, K10 VCCAUX (power), K13 VCCO_14 (power), K14 GND, L4 GND, L6 GND, L8 GND, L9 VCCAUX (power), L10 GND, L11 GND, N2 VCCO_34 (power), N3 GND, N5 GND, N6 VCCO_0 (power), N8 VCCO_0 (power), N9 GND, N12 GND, N13 VCCO_14 (power), P1 GND, P14 GND
part A text: Xilinx Spartan-7 XC7S25-1FTGB196С; BANK 0
part B text: Xilinx Spartan-7 XC7S25-1FTGB196С; BANK 14 (HR)
part C text: Xilinx Spartan-7 XC7S25-1FTGB196С; BANK 34 (HR)
part D text: Xilinx Spartan-7 XC7S25-1FTGB196С; POWER

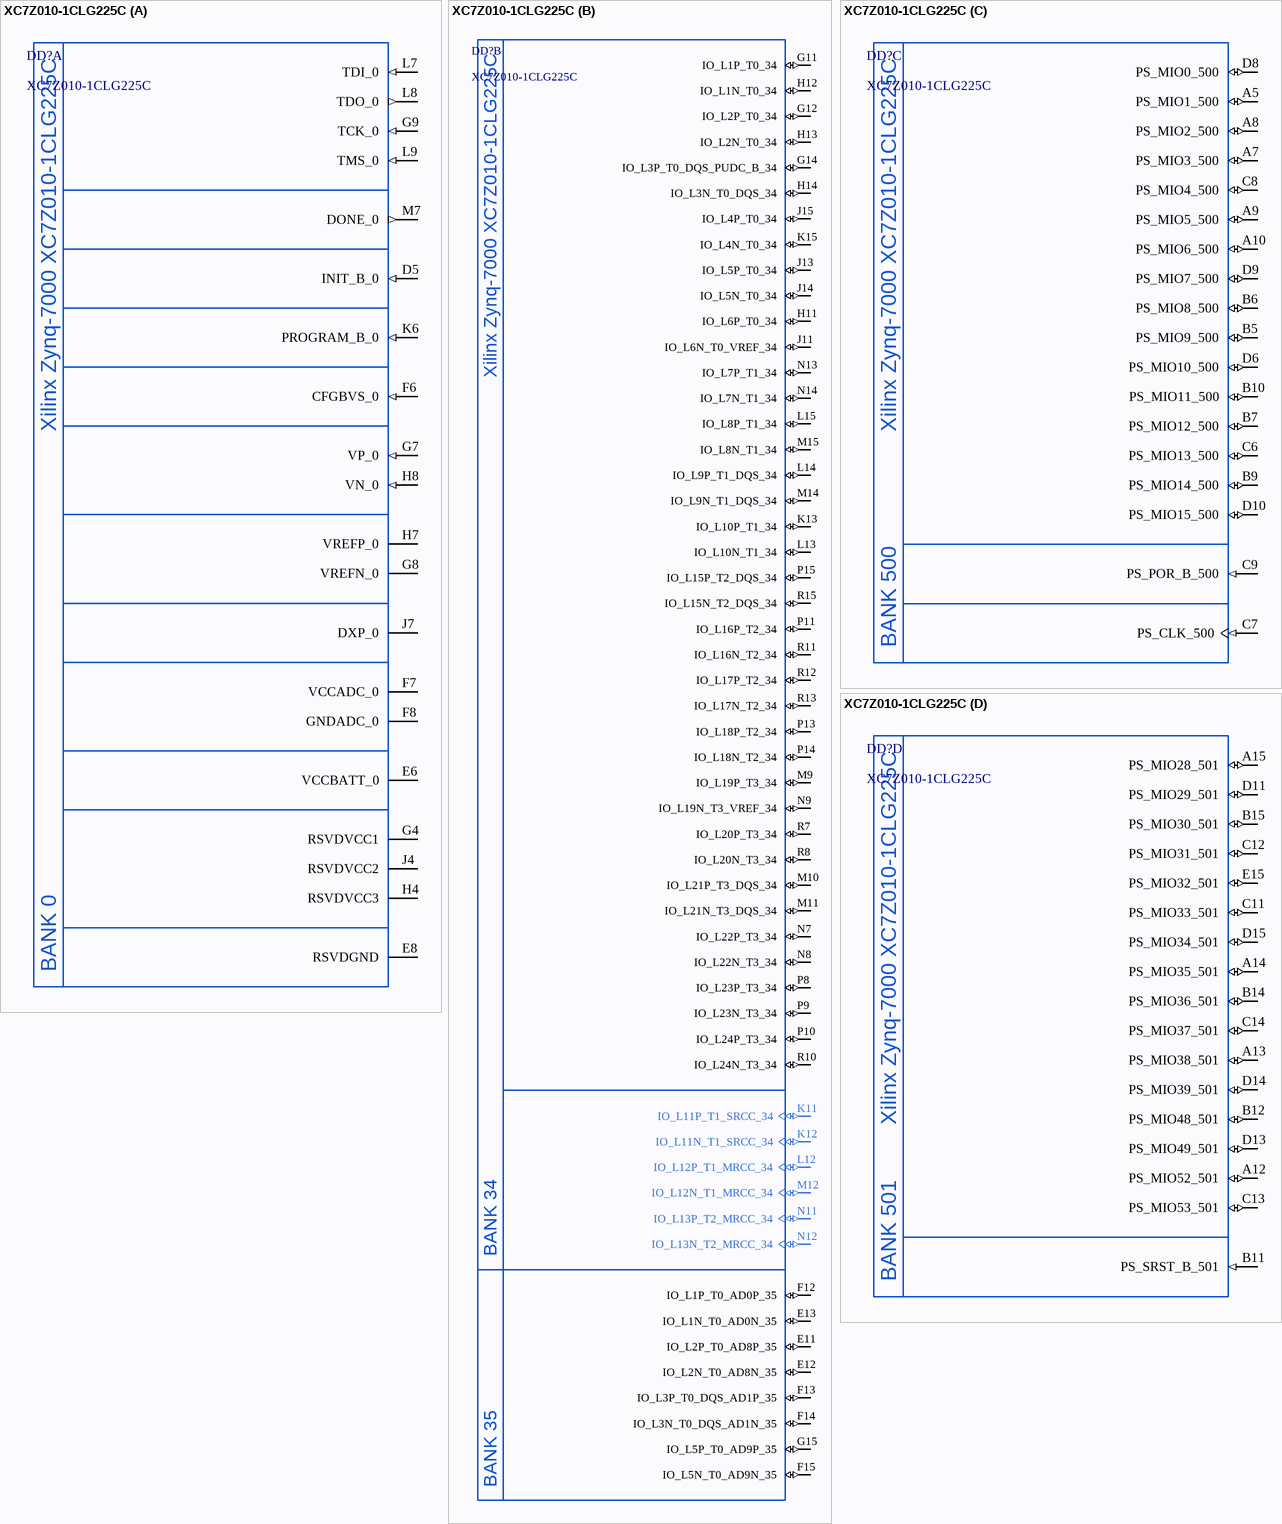
[diagram p37: symbol XC7Z010-1CLG225C]

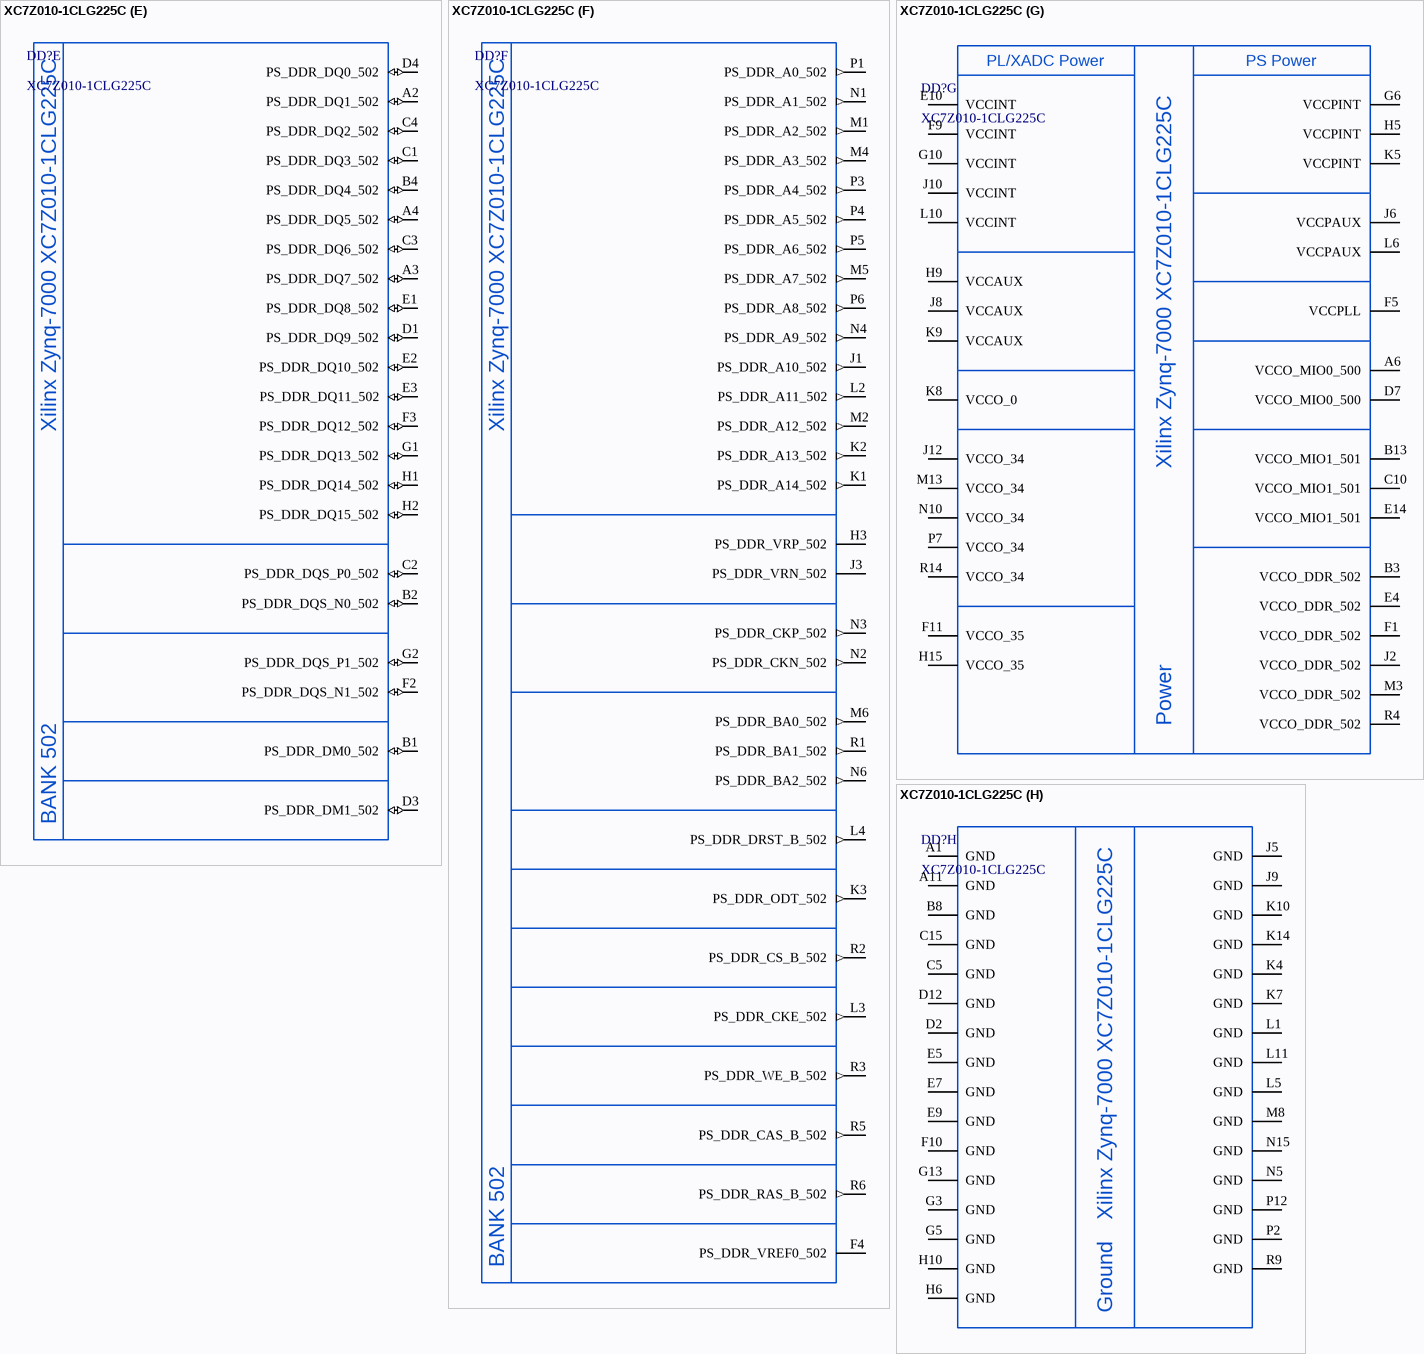
[diagram p38: symbol XC7Z010-1CLG225C]

## XC7Z010-1CLG225C
designator DD?
Zynq-7000 Series SoC, Speed Grade 1; Manufacturer: Xilinx; Speed Grade: -1; ItemType: IC; Package: CSPBGA-225; PartNumber: XC7Z010-1CLG225C; Marking: XC7Z010; ItemSubType: SoC; Mounting: SMD
footprint CLG225_XC7Z010 (CLG225 Package for Zynq-7000 Series SoC. JEDEC MO-275-HHAC-1)
part A pins: D5 INIT_B_0 (in), E6 VCCBATT_0 (power), E8 RSVDGND, F6 CFGBVS_0 (in), F7 VCCADC_0 (power), F8 GNDADC_0, G4 RSVDVCC1 (power), G7 VP_0 (in), G8 VREFN_0, G9 TCK_0 (in), H4 RSVDVCC3 (power), H7 VREFP_0, H8 VN_0 (in), J4 RSVDVCC2 (power), J7 DXP_0, K6 PROGRAM_B_0 (in), L7 TDI_0 (in), L8 TDO_0 (out), L9 TMS_0 (in), M7 DONE_0 (out)
part B pins: E11 IO_L2P_T0_AD8P_35 (io), E12 IO_L2N_T0_AD8N_35 (io), E13 IO_L1N_T0_AD0N_35 (io), F12 IO_L1P_T0_AD0P_35 (io), F13 IO_L3P_T0_DQS_AD1P_35 (io), F14 IO_L3N_T0_DQS_AD1N_35 (io), F15 IO_L5N_T0_AD9N_35 (io), G11 IO_L1P_T0_34 (io), G12 IO_L2P_T0_34 (io), G14 IO_L3P_T0_DQS_PUDC_B_34 (io), G15 IO_L5P_T0_AD9P_35 (io), H11 IO_L6P_T0_34 (io), H12 IO_L1N_T0_34 (io), H13 IO_L2N_T0_34 (io), H14 IO_L3N_T0_DQS_34 (io), J11 IO_L6N_T0_VREF_34 (io), J13 IO_L5P_T0_34 (io), J14 IO_L5N_T0_34 (io), J15 IO_L4P_T0_34 (io), K11 IO_L11P_T1_SRCC_34 (io), K12 IO_L11N_T1_SRCC_34 (io), K13 IO_L10P_T1_34 (io), K15 IO_L4N_T0_34 (io), L12 IO_L12P_T1_MRCC_34 (io), L13 IO_L10N_T1_34 (io), L14 IO_L9P_T1_DQS_34 (io), L15 IO_L8P_T1_34 (io), M9 IO_L19P_T3_34 (io), M10 IO_L21P_T3_DQS_34 (io), M11 IO_L21N_T3_DQS_34 (io), M12 IO_L12N_T1_MRCC_34 (io), M14 IO_L9N_T1_DQS_34 (io), M15 IO_L8N_T1_34 (io), N7 IO_L22P_T3_34 (io), N8 IO_L22N_T3_34 (io), N9 IO_L19N_T3_VREF_34 (io), N11 IO_L13P_T2_MRCC_34 (io), N12 IO_L13N_T2_MRCC_34 (io), N13 IO_L7P_T1_34 (io), N14 IO_L7N_T1_34 (io), P8 IO_L23P_T3_34 (io), P9 IO_L23N_T3_34 (io), P10 IO_L24P_T3_34 (io), P11 IO_L16P_T2_34 (io), P13 IO_L18P_T2_34 (io), P14 IO_L18N_T2_34 (io), P15 IO_L15P_T2_DQS_34 (io), R7 IO_L20P_T3_34 (io), R8 IO_L20N_T3_34 (io), R10 IO_L24N_T3_34 (io), R11 IO_L16N_T2_34 (io), R12 IO_L17P_T2_34 (io), R13 IO_L17N_T2_34 (io), R15 IO_L15N_T2_DQS_34 (io)
part C pins: A5 PS_MIO1_500 (io), A7 PS_MIO3_500 (io), A8 PS_MIO2_500 (io), A9 PS_MIO5_500 (io), A10 PS_MIO6_500 (io), B5 PS_MIO9_500 (io), B6 PS_MIO8_500 (io), B7 PS_MIO12_500 (io), B9 PS_MIO14_500 (io), B10 PS_MIO11_500 (io), C6 PS_MIO13_500 (io), C7 PS_CLK_500 (in), C8 PS_MIO4_500 (io), C9 PS_POR_B_500 (in), D6 PS_MIO10_500 (io), D8 PS_MIO0_500 (io), D9 PS_MIO7_500 (io), D10 PS_MIO15_500 (io)
part D pins: A12 PS_MIO52_501 (io), A13 PS_MIO38_501 (io), A14 PS_MIO35_501 (io), A15 PS_MIO28_501 (io), B11 PS_SRST_B_501 (in), B12 PS_MIO48_501 (io), B14 PS_MIO36_501 (io), B15 PS_MIO30_501 (io), C11 PS_MIO33_501 (io), C12 PS_MIO31_501 (io), C13 PS_MIO53_501 (io), C14 PS_MIO37_501 (io), D11 PS_MIO29_501 (io), D13 PS_MIO49_501 (io), D14 PS_MIO39_501 (io), D15 PS_MIO34_501 (io), E15 PS_MIO32_501 (io)
part E pins: A2 PS_DDR_DQ1_502 (io), A3 PS_DDR_DQ7_502 (io), A4 PS_DDR_DQ5_502 (io), B1 PS_DDR_DM0_502 (io), B2 PS_DDR_DQS_N0_502 (io), B4 PS_DDR_DQ4_502 (io), C1 PS_DDR_DQ3_502 (io), C2 PS_DDR_DQS_P0_502 (io), C3 PS_DDR_DQ6_502 (io), C4 PS_DDR_DQ2_502 (io), D1 PS_DDR_DQ9_502 (io), D3 PS_DDR_DM1_502 (io), D4 PS_DDR_DQ0_502 (io), E1 PS_DDR_DQ8_502 (io), E2 PS_DDR_DQ10_502 (io), E3 PS_DDR_DQ11_502 (io), F2 PS_DDR_DQS_N1_502 (io), F3 PS_DDR_DQ12_502 (io), G1 PS_DDR_DQ13_502 (io), G2 PS_DDR_DQS_P1_502 (io), H1 PS_DDR_DQ14_502 (io), H2 PS_DDR_DQ15_502 (io)
part F pins: F4 PS_DDR_VREF0_502, H3 PS_DDR_VRP_502, J1 PS_DDR_A10_502 (out), J3 PS_DDR_VRN_502, K1 PS_DDR_A14_502 (out), K2 PS_DDR_A13_502 (out), K3 PS_DDR_ODT_502 (out), L2 PS_DDR_A11_502 (out), L3 PS_DDR_CKE_502 (out), L4 PS_DDR_DRST_B_502 (out), M1 PS_DDR_A2_502 (out), M2 PS_DDR_A12_502 (out), M4 PS_DDR_A3_502 (out), M5 PS_DDR_A7_502 (out), M6 PS_DDR_BA0_502 (out), N1 PS_DDR_A1_502 (out), N2 PS_DDR_CKN_502 (out), N3 PS_DDR_CKP_502 (out), N4 PS_DDR_A9_502 (out), N6 PS_DDR_BA2_502 (out), P1 PS_DDR_A0_502 (out), P3 PS_DDR_A4_502 (out), P4 PS_DDR_A5_502 (out), P5 PS_DDR_A6_502 (out), P6 PS_DDR_A8_502 (out), R1 PS_DDR_BA1_502 (out), R2 PS_DDR_CS_B_502 (out), R3 PS_DDR_WE_B_502 (out), R5 PS_DDR_CAS_B_502 (out), R6 PS_DDR_RAS_B_502 (out)
part G pins: A6 VCCO_MIO0_500 (power), B3 VCCO_DDR_502 (power), B13 VCCO_MIO1_501 (power), C10 VCCO_MIO1_501 (power), D7 VCCO_MIO0_500 (power), E4 VCCO_DDR_502 (power), E10 VCCINT (power), E14 VCCO_MIO1_501 (power), F1 VCCO_DDR_502 (power), F5 VCCPLL (power), F9 VCCINT (power), F11 VCCO_35 (power), G6 VCCPINT (power), G10 VCCINT (power), H5 VCCPINT (power), H9 VCCAUX (power), H15 VCCO_35 (power), J2 VCCO_DDR_502 (power), J6 VCCPAUX (power), J8 VCCAUX (power), J10 VCCINT (power), J12 VCCO_34 (power), K5 VCCPINT (power), K8 VCCO_0 (power), K9 VCCAUX (power), L6 VCCPAUX (power), L10 VCCINT (power), M3 VCCO_DDR_502 (power), M13 VCCO_34 (power), N10 VCCO_34 (power), P7 VCCO_34 (power), R4 VCCO_DDR_502 (power), R14 VCCO_34 (power)
part H pins: A1 GND, A11 GND, B8 GND, C5 GND, C15 GND, D2 GND, D12 GND, E5 GND, E7 GND, E9 GND, F10 GND, G3 GND, G5 GND, G13 GND, H6 GND, H10 GND, J5 GND, J9 GND, K4 GND, K7 GND, K10 GND, K14 GND, L1 GND, L5 GND, L11 GND, M8 GND, N5 GND, N15 GND, P2 GND, P12 GND, R9 GND
part A text: Xilinx Zynq-7000 XC7Z010-1CLG225C; BANK 0
part B text: Xilinx Zynq-7000 XC7Z010-1CLG225C; BANK 34; BANK 35
part C text: Xilinx Zynq-7000 XC7Z010-1CLG225C; BANK 500
part D text: Xilinx Zynq-7000 XC7Z010-1CLG225C; BANK 501
part E text: Xilinx Zynq-7000 XC7Z010-1CLG225C; BANK 502
part F text: Xilinx Zynq-7000 XC7Z010-1CLG225C; BANK 502
part G text: PL/XADC Power; PS Power; Xilinx Zynq-7000 XC7Z010-1CLG225C; Power
part H text: Xilinx Zynq-7000 XC7Z010-1CLG225C; Ground

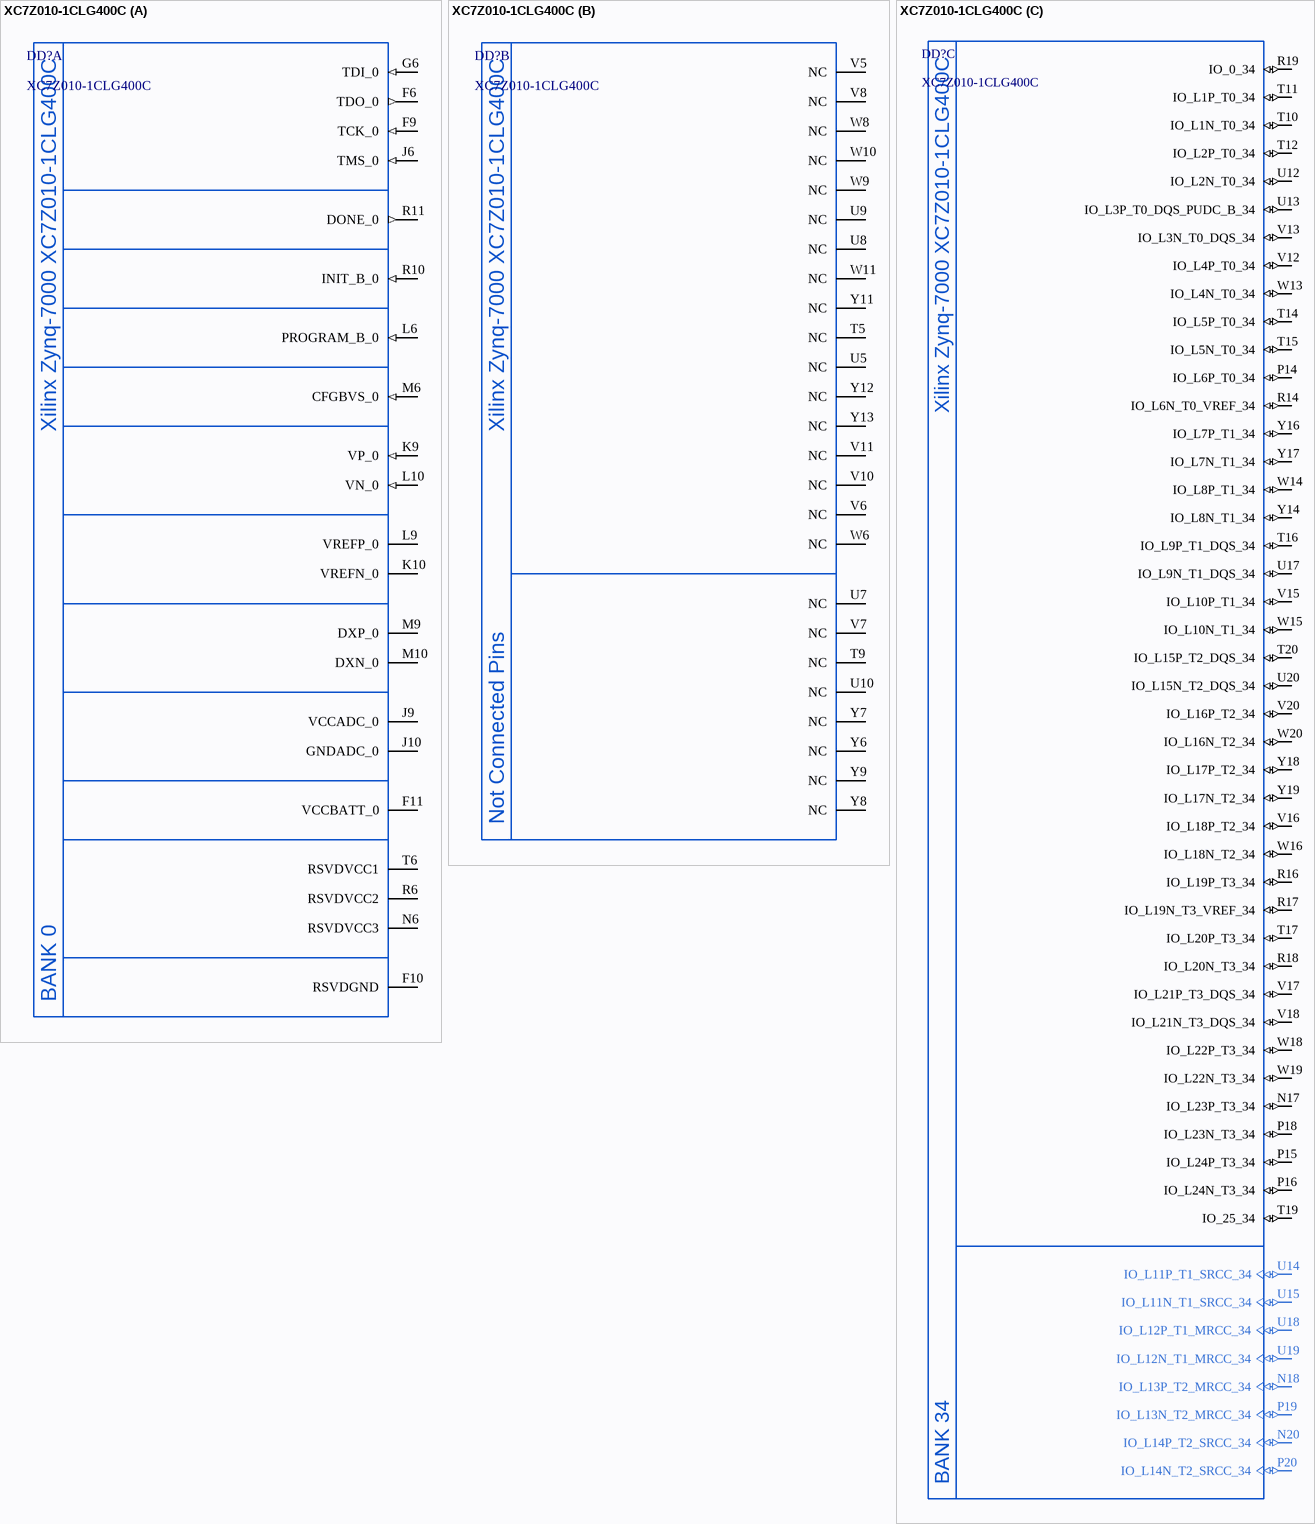
[diagram p39: symbol XC7Z010-1CLG400C]

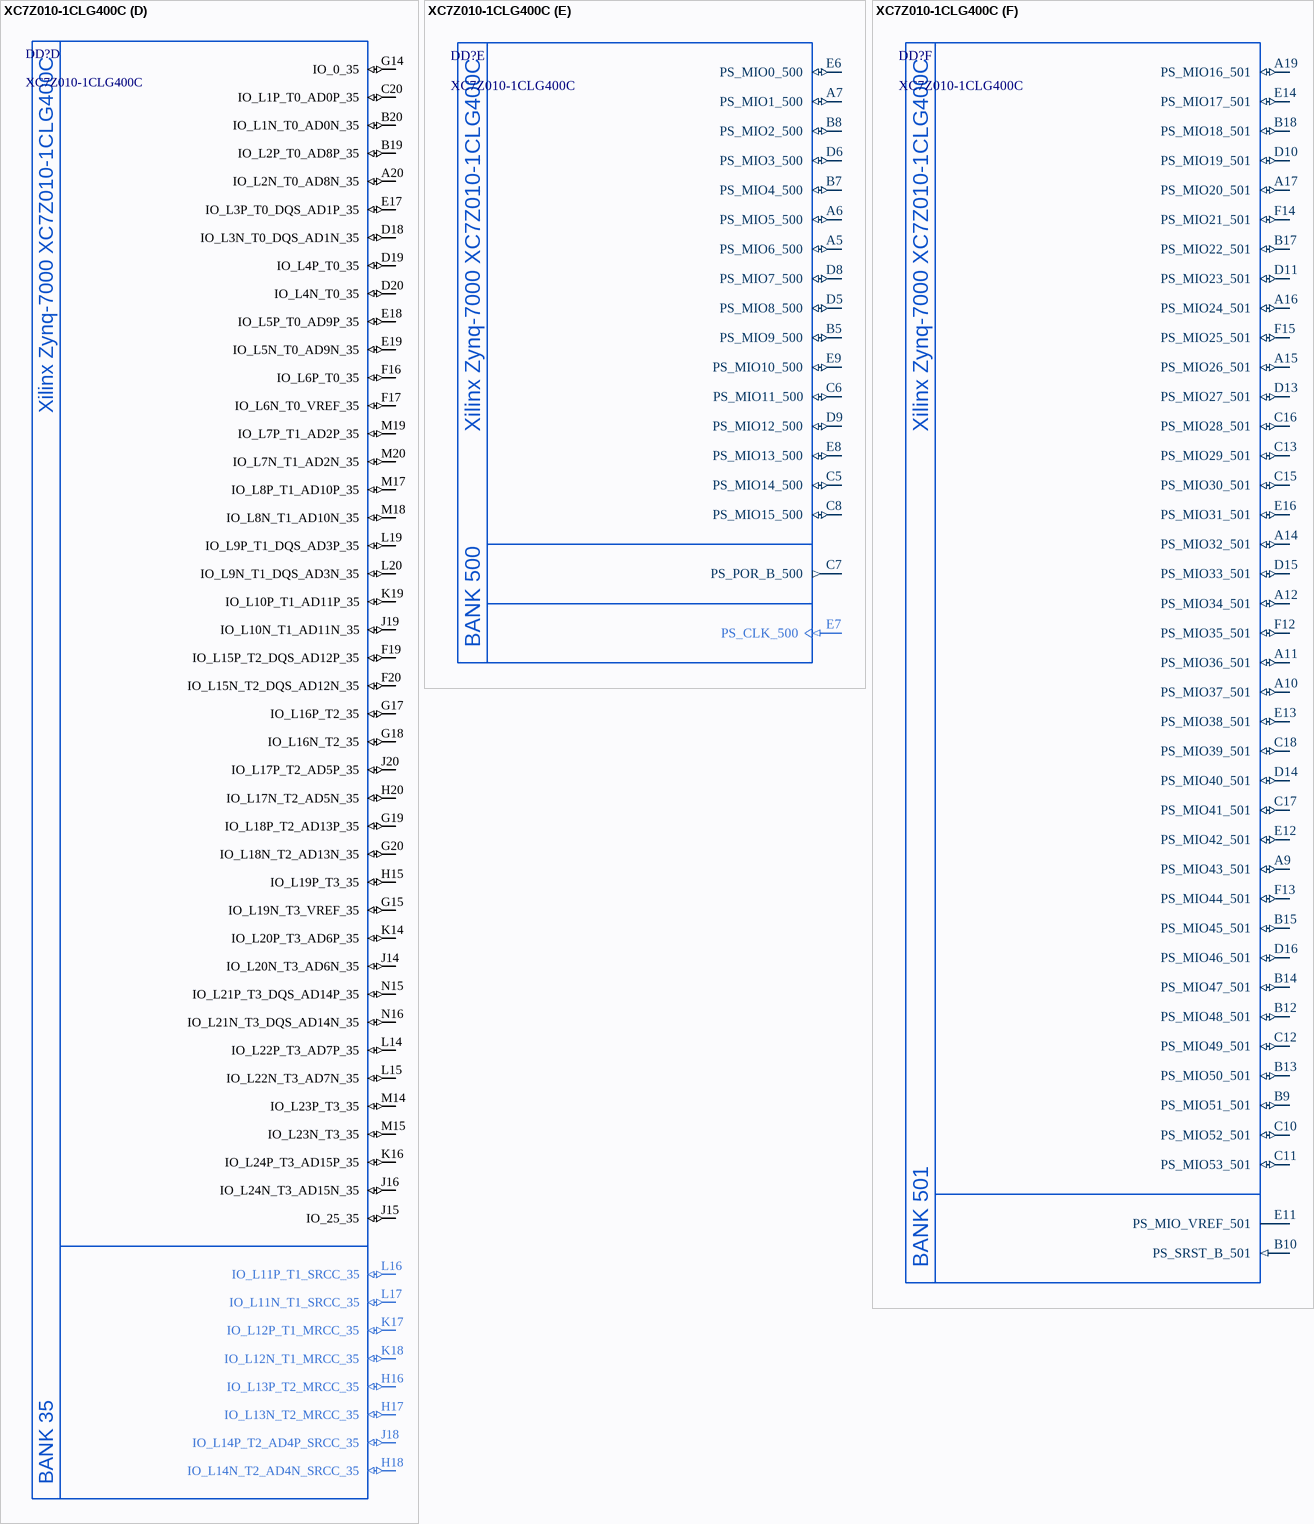
[diagram p40: symbol XC7Z010-1CLG400C]

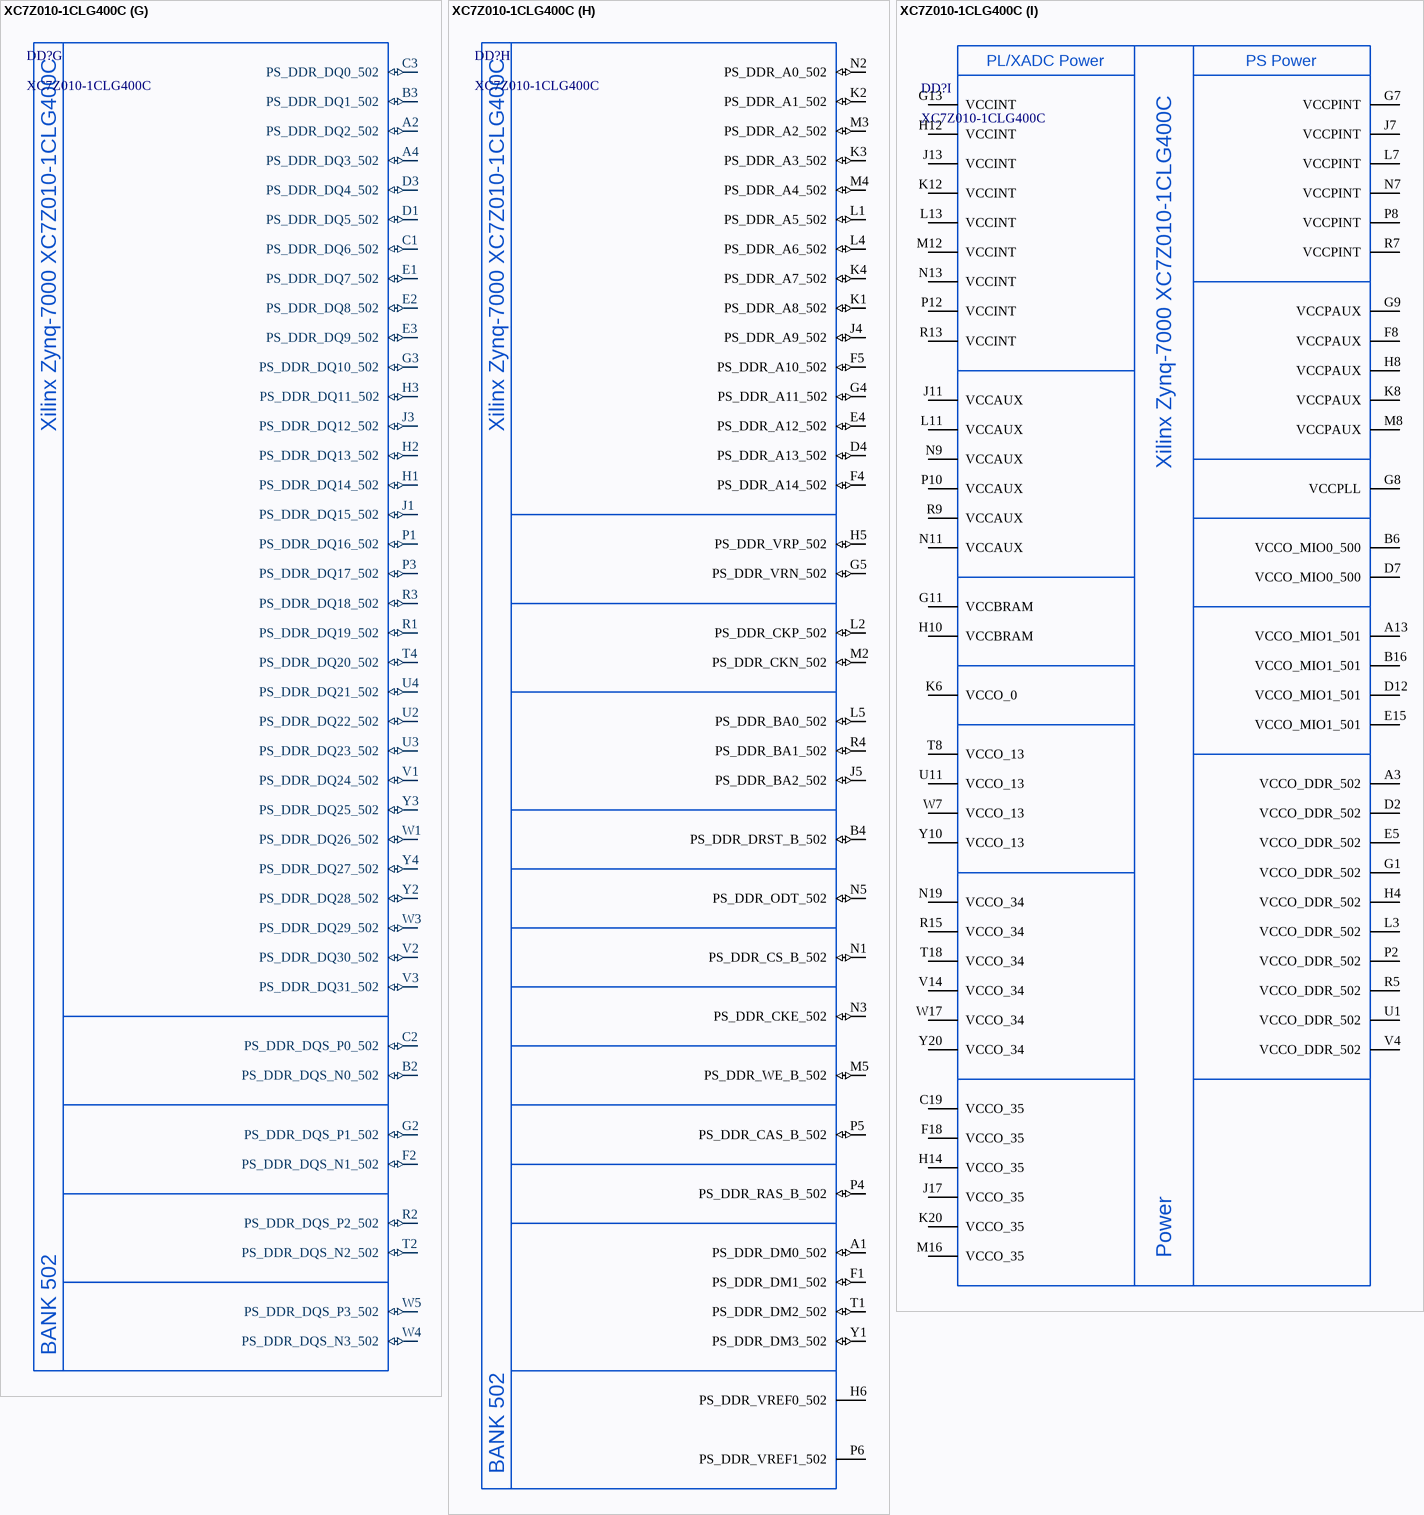
[diagram p41: symbol XC7Z010-1CLG400C]

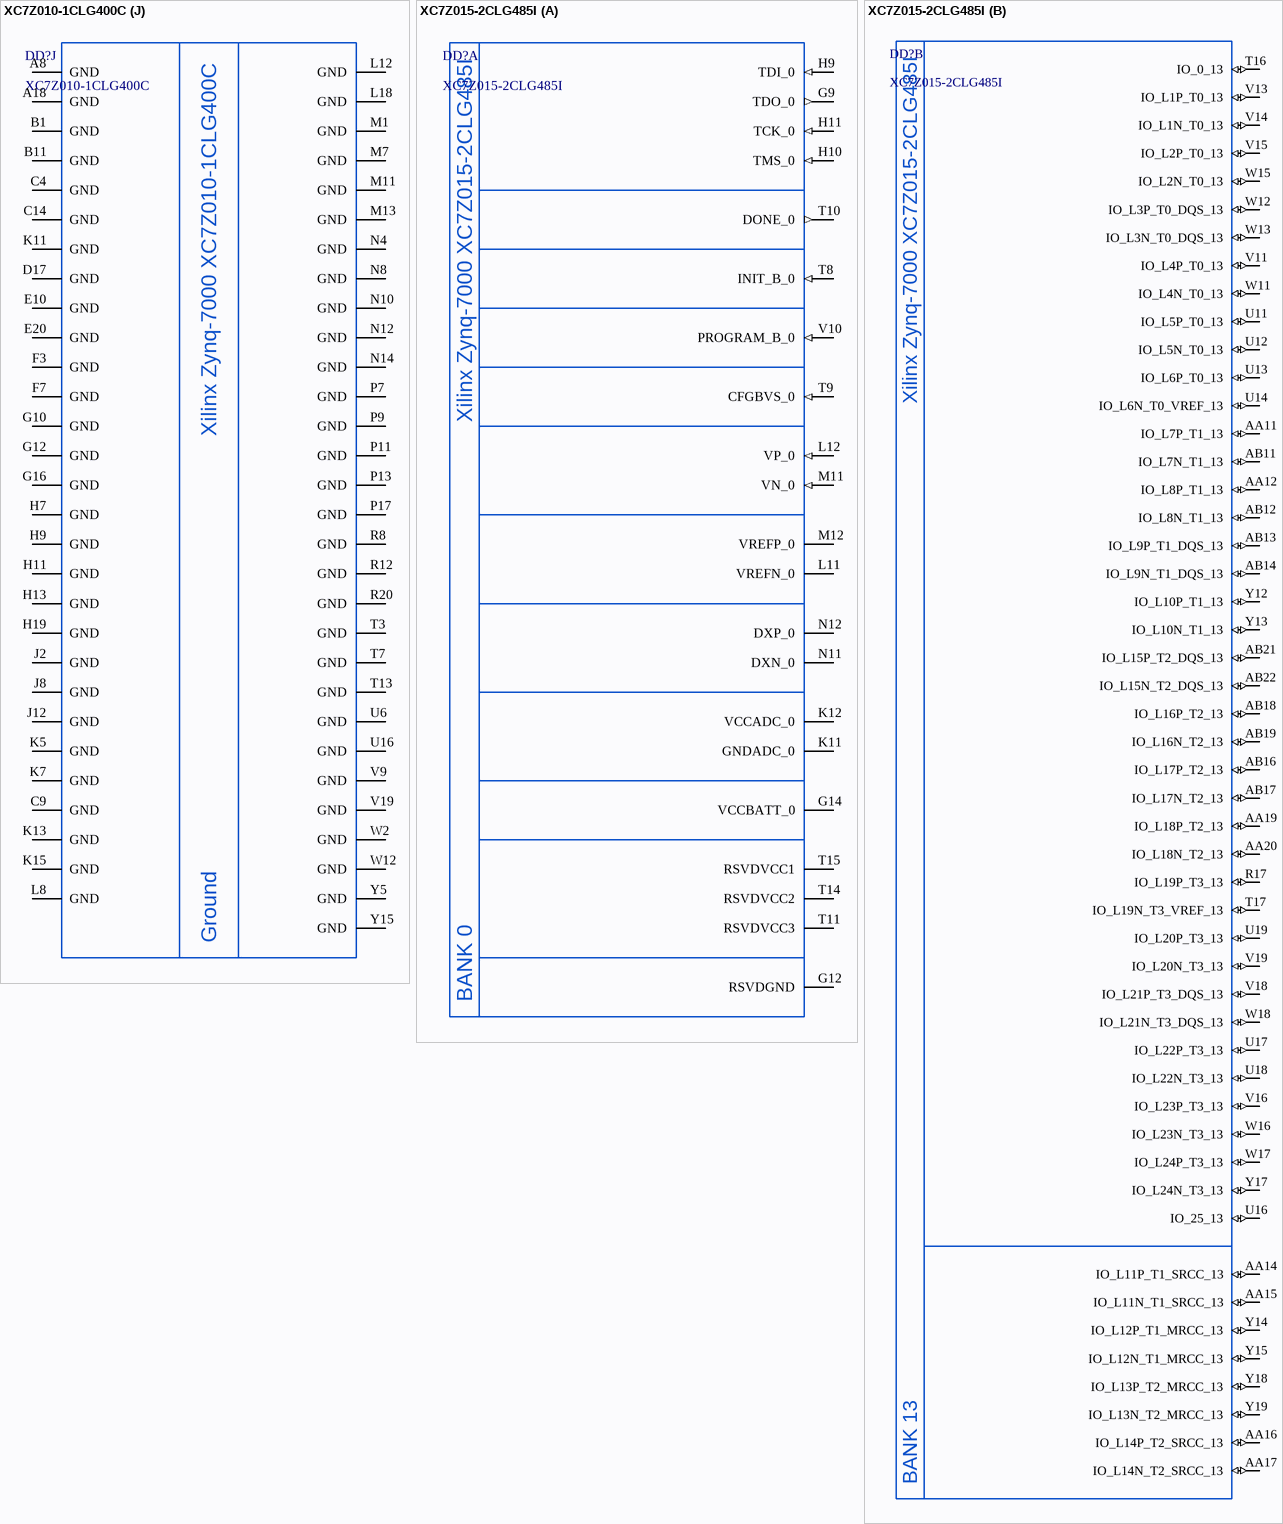
[diagram p42: symbols XC7Z010-1CLG400C to XC7Z015-2CLG485I]